# Altium integrated library Lattice CPLD ispMACH.IntLib: 663 symbols (part 30 of 48)
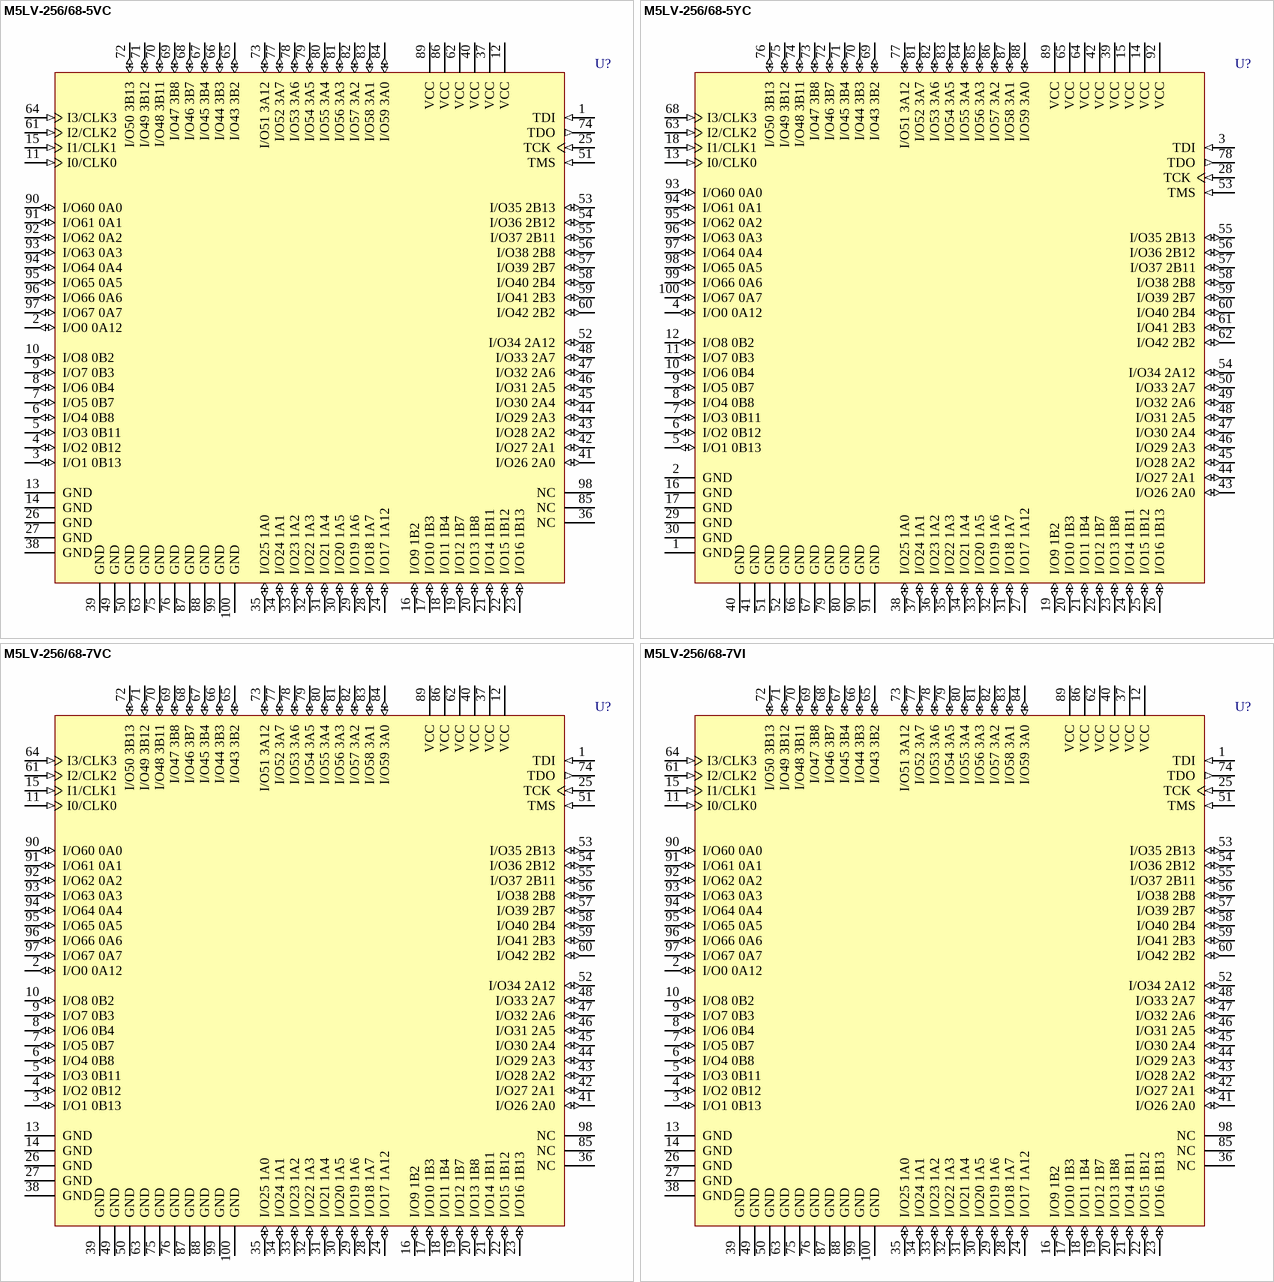
[diagram p335: symbols M5LV-256/68-5VC to M5LV-256/68-7VI]

## M5LV-256/68-7VC
designator U?
High-Density and High-I/O Complex PLD; Published: 23-Sep-2002; LatestRevisionDate: 13-Apr-2006; LatestRevisionNote: IPC-7351 Footprint Added.; DatasheetVersion: Sep-2000; PackageVersion: pkg_32, Aug-2005; PackageReference: TQFP100; Publisher: Altium Limited; PackageDescription: 100-Pin Thin Quad Flat Pack (TQFP100); Code_JEDEC: MS-026-BED; ComponentLink1Description: Manufacturer Link; ComponentLink1URL: http://www.latticesemi.com/products/mature/index.cfm; ComponentLink2Description: Datasheet; ComponentLink2URL: http://www.latticesemi.com/lit/docs/datasheets/cpld/mach5.pdf
footprint TQFP100_N (Thin QFP, 100-Leads, Body 14x14mm, Pitch 0.5mm, IPC Medium Density)
footprint TQFP100_L (Thin QFP, 100-Leads, Body 14x14mm, Pitch 0.5mm, IPC High Density)
footprint TQFP100_M (Thin QFP, 100-Leads, Body 14x14mm, Pitch 0.5mm, IPC Low Density)
3D model M5LV-TQFP100 (100-Pin Thin Quad Flat Pack (TQFP100))
pins: 1 TDI (in), 2 I/O0 0A12 (io), 3 I/O1 0B13 (io), 4 I/O2 0B12 (io), 5 I/O3 0B11 (io), 6 I/O4 0B8 (io), 7 I/O5 0B7 (io), 8 I/O6 0B4 (io), 9 I/O7 0B3 (io), 10 I/O8 0B2 (io), 11 I0/CLK0 (in), 12 VCC (power), 13 GND (power), 14 GND (power), 15 I1/CLK1 (in), 16 I/O9 1B2 (io), 17 I/O10 1B3 (io), 18 I/O11 1B4 (io), 19 I/O12 1B7 (io), 20 I/O13 1B8 (io), 21 I/O14 1B11 (io), 22 I/O15 1B12 (io), 23 I/O16 1B13 (io), 24 I/O17 1A12 (io), 25 TCK (in), 26 GND (power), 27 GND (power), 28 I/O18 1A7 (io), 29 I/O19 1A6 (io), 30 I/O20 1A5 (io), 31 I/O21 1A4 (io), 32 I/O22 1A3 (io), 33 I/O23 1A2 (io), 34 I/O24 1A1 (io), 35 I/O25 1A0 (io), 36 NC, 37 VCC (power), 38 GND (power), 39 GND (power), 40 VCC (power), 41 I/O26 2A0 (io), 42 I/O27 2A1 (io), 43 I/O28 2A2 (io), 44 I/O29 2A3 (io), 45 I/O30 2A4 (io), 46 I/O31 2A5 (io), 47 I/O32 2A6 (io), 48 I/O33 2A7 (io), 49 GND (power), 50 GND (power), 51 TMS (in), 52 I/O34 2A12 (io), 53 I/O35 2B13 (io), 54 I/O36 2B12 (io), 55 I/O37 2B11 (io), 56 I/O38 2B8 (io), 57 I/O39 2B7 (io), 58 I/O40 2B4 (io), 59 I/O41 2B3 (io), 60 I/O42 2B2 (io), 61 I2/CLK2 (in), 62 VCC (power), 63 GND (power), 64 I3/CLK3 (in), 65 I/O43 3B2 (io), 66 I/O44 3B3 (io), 67 I/O45 3B4 (io), 68 I/O46 3B7 (io), 69 I/O47 3B8 (io), 70 I/O48 3B11 (io), 71 I/O49 3B12 (io), 72 I/O50 3B13 (io), 73 I/O51 3A12 (io), 74 TDO (out), 75 GND (power), 76 GND (power), 77 I/O52 3A7 (io), 78 I/O53 3A6 (io), 79 I/O54 3A5 (io), 80 I/O55 3A4 (io), 81 I/O56 3A3 (io), 82 I/O57 3A2 (io), 83 I/O58 3A1 (io), 84 I/O59 3A0 (io), 85 NC, 86 VCC (power), 87 GND (power), 88 GND (power), 89 VCC (power), 90 I/O60 0A0 (io), 91 I/O61 0A1 (io), 92 I/O62 0A2 (io), 93 I/O63 0A3 (io), 94 I/O64 0A4 (io), 95 I/O65 0A5 (io), 96 I/O66 0A6 (io), 97 I/O67 0A7 (io), 98 NC, 99 GND (power), 100 GND (power)

## M5LV-256/68-7VI
designator U?
High-Density and High-I/O Complex PLD; Published: 23-Sep-2002; LatestRevisionDate: 13-Apr-2006; LatestRevisionNote: IPC-7351 Footprint Added.; DatasheetVersion: Sep-2000; PackageVersion: pkg_32, Aug-2005; PackageReference: TQFP100; Publisher: Altium Limited; PackageDescription: 100-Pin Thin Quad Flat Pack (TQFP100); Code_JEDEC: MS-026-BED; ComponentLink1Description: Manufacturer Link; ComponentLink1URL: http://www.latticesemi.com/products/mature/index.cfm; ComponentLink2Description: Datasheet; ComponentLink2URL: http://www.latticesemi.com/lit/docs/datasheets/cpld/mach5.pdf
footprint TQFP100_N (Thin QFP, 100-Leads, Body 14x14mm, Pitch 0.5mm, IPC Medium Density)
footprint TQFP100_L (Thin QFP, 100-Leads, Body 14x14mm, Pitch 0.5mm, IPC High Density)
footprint TQFP100_M (Thin QFP, 100-Leads, Body 14x14mm, Pitch 0.5mm, IPC Low Density)
3D model M5LV-TQFP100 (100-Pin Thin Quad Flat Pack (TQFP100))
pins: 1 TDI (in), 2 I/O0 0A12 (io), 3 I/O1 0B13 (io), 4 I/O2 0B12 (io), 5 I/O3 0B11 (io), 6 I/O4 0B8 (io), 7 I/O5 0B7 (io), 8 I/O6 0B4 (io), 9 I/O7 0B3 (io), 10 I/O8 0B2 (io), 11 I0/CLK0 (in), 12 VCC (power), 13 GND (power), 14 GND (power), 15 I1/CLK1 (in), 16 I/O9 1B2 (io), 17 I/O10 1B3 (io), 18 I/O11 1B4 (io), 19 I/O12 1B7 (io), 20 I/O13 1B8 (io), 21 I/O14 1B11 (io), 22 I/O15 1B12 (io), 23 I/O16 1B13 (io), 24 I/O17 1A12 (io), 25 TCK (in), 26 GND (power), 27 GND (power), 28 I/O18 1A7 (io), 29 I/O19 1A6 (io), 30 I/O20 1A5 (io), 31 I/O21 1A4 (io), 32 I/O22 1A3 (io), 33 I/O23 1A2 (io), 34 I/O24 1A1 (io), 35 I/O25 1A0 (io), 36 NC, 37 VCC (power), 38 GND (power), 39 GND (power), 40 VCC (power), 41 I/O26 2A0 (io), 42 I/O27 2A1 (io), 43 I/O28 2A2 (io), 44 I/O29 2A3 (io), 45 I/O30 2A4 (io), 46 I/O31 2A5 (io), 47 I/O32 2A6 (io), 48 I/O33 2A7 (io), 49 GND (power), 50 GND (power), 51 TMS (in), 52 I/O34 2A12 (io), 53 I/O35 2B13 (io), 54 I/O36 2B12 (io), 55 I/O37 2B11 (io), 56 I/O38 2B8 (io), 57 I/O39 2B7 (io), 58 I/O40 2B4 (io), 59 I/O41 2B3 (io), 60 I/O42 2B2 (io), 61 I2/CLK2 (in), 62 VCC (power), 63 GND (power), 64 I3/CLK3 (in), 65 I/O43 3B2 (io), 66 I/O44 3B3 (io), 67 I/O45 3B4 (io), 68 I/O46 3B7 (io), 69 I/O47 3B8 (io), 70 I/O48 3B11 (io), 71 I/O49 3B12 (io), 72 I/O50 3B13 (io), 73 I/O51 3A12 (io), 74 TDO (out), 75 GND (power), 76 GND (power), 77 I/O52 3A7 (io), 78 I/O53 3A6 (io), 79 I/O54 3A5 (io), 80 I/O55 3A4 (io), 81 I/O56 3A3 (io), 82 I/O57 3A2 (io), 83 I/O58 3A1 (io), 84 I/O59 3A0 (io), 85 NC, 86 VCC (power), 87 GND (power), 88 GND (power), 89 VCC (power), 90 I/O60 0A0 (io), 91 I/O61 0A1 (io), 92 I/O62 0A2 (io), 93 I/O63 0A3 (io), 94 I/O64 0A4 (io), 95 I/O65 0A5 (io), 96 I/O66 0A6 (io), 97 I/O67 0A7 (io), 98 NC, 99 GND (power), 100 GND (power)

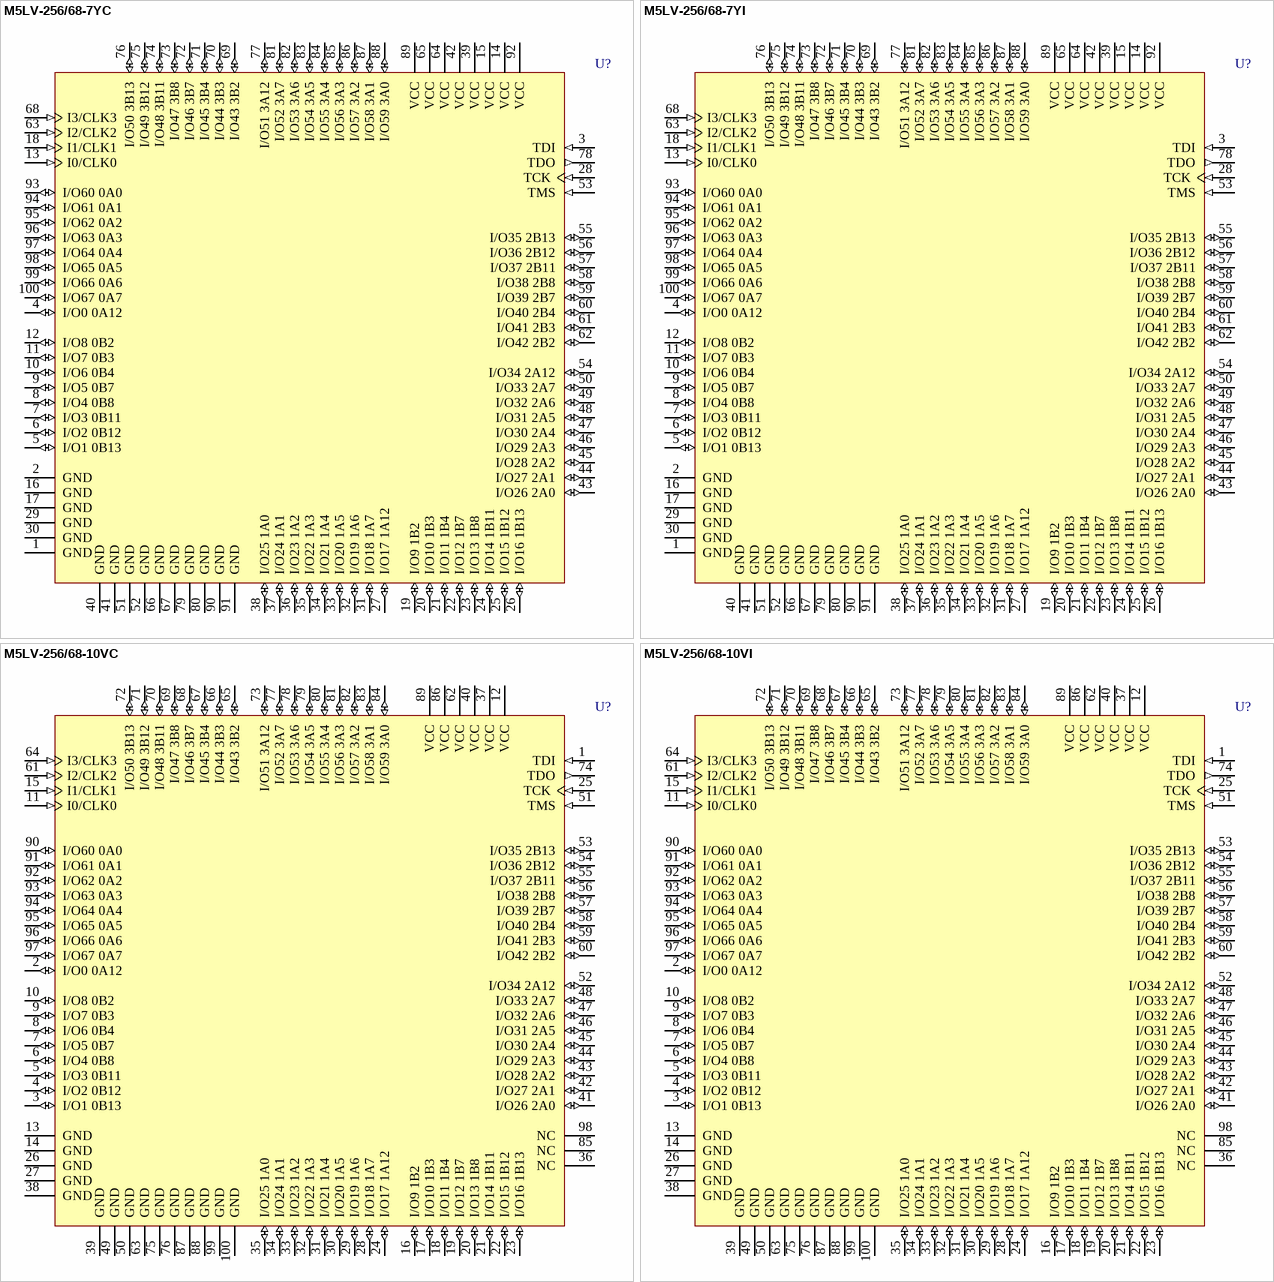
[diagram p174: symbols M5LV-256/68-7YC to M5LV-256/68-10VI]

## M5LV-256/68-7YC
designator U?
High-Density and High-I/O Complex PLD; Published: 23-Sep-2002; LatestRevisionDate: 13-Apr-2006; LatestRevisionNote: IPC-7351 Footprint Added.; DatasheetVersion: Sep-2000; PackageVersion: pkg_32, Aug-2005; PackageReference: PQFP100; Publisher: Altium Limited; PackageDescription: 100-Pin Quad Flat Pack Rectangular 0.65 mm Pitch; Code_IPC: QFP65P1720X2320-100; ComponentLink1Description: Manufacturer Link; ComponentLink1URL: http://www.latticesemi.com/products/mature/index.cfm; ComponentLink2Description: Datasheet; ComponentLink2URL: http://www.latticesemi.com/lit/docs/datasheets/cpld/mach5.pdf
footprint PQFP100_N (QFP, 100-Leads, Body 20x14mm, Pitch 0.65mm, IPC Medium Density)
footprint PQFP100_L (QFP, 100-Leads, Body 20x14mm, Pitch 0.65mm, IPC High Density)
footprint PQFP100_M (QFP, 100-Leads, Body 20x14mm, Pitch 0.65mm, IPC Low Density)
3D model PQFP-100 (100-Pin Quad Flat Pack Rectangular 0.65 mm Pitch)
pins: 1 GND (power), 2 GND (power), 3 TDI (in), 4 I/O0 0A12 (io), 5 I/O1 0B13 (io), 6 I/O2 0B12 (io), 7 I/O3 0B11 (io), 8 I/O4 0B8 (io), 9 I/O5 0B7 (io), 10 I/O6 0B4 (io), 11 I/O7 0B3 (io), 12 I/O8 0B2 (io), 13 I0/CLK0 (in), 14 VCC (power), 15 VCC (power), 16 GND (power), 17 GND (power), 18 I1/CLK1 (in), 19 I/O9 1B2 (io), 20 I/O10 1B3 (io), 21 I/O11 1B4 (io), 22 I/O12 1B7 (io), 23 I/O13 1B8 (io), 24 I/O14 1B11 (io), 25 I/O15 1B12 (io), 26 I/O16 1B13 (io), 27 I/O17 1A12 (io), 28 TCK (in), 29 GND (power), 30 GND (power), 31 I/O18 1A7 (io), 32 I/O19 1A6 (io), 33 I/O20 1A5 (io), 34 I/O21 1A4 (io), 35 I/O22 1A3 (io), 36 I/O23 1A2 (io), 37 I/O24 1A1 (io), 38 I/O25 1A0 (io), 39 VCC (power), 40 GND (power), 41 GND (power), 42 VCC (power), 43 I/O26 2A0 (io), 44 I/O27 2A1 (io), 45 I/O28 2A2 (io), 46 I/O29 2A3 (io), 47 I/O30 2A4 (io), 48 I/O31 2A5 (io), 49 I/O32 2A6 (io), 50 I/O33 2A7 (io), 51 GND (power), 52 GND (power), 53 TMS (in), 54 I/O34 2A12 (io), 55 I/O35 2B13 (io), 56 I/O36 2B12 (io), 57 I/O37 2B11 (io), 58 I/O38 2B8 (io), 59 I/O39 2B7 (io), 60 I/O40 2B4 (io), 61 I/O41 2B3 (io), 62 I/O42 2B2 (io), 63 I2/CLK2 (in), 64 VCC (power), 65 VCC (power), 66 GND (power), 67 GND (power), 68 I3/CLK3 (in), 69 I/O43 3B2 (io), 70 I/O44 3B3 (io), 71 I/O45 3B4 (io), 72 I/O46 3B7 (io), 73 I/O47 3B8 (io), 74 I/O48 3B11 (io), 75 I/O49 3B12 (io), 76 I/O50 3B13 (io), 77 I/O51 3A12 (io), 78 TDO (out), 79 GND (power), 80 GND (power), 81 I/O52 3A7 (io), 82 I/O53 3A6 (io), 83 I/O54 3A5 (io), 84 I/O55 3A4 (io), 85 I/O56 3A3 (io), 86 I/O57 3A2 (io), 87 I/O58 3A1 (io), 88 I/O59 3A0 (io), 89 VCC (power), 90 GND (power), 91 GND (power), 92 VCC (power), 93 I/O60 0A0 (io), 94 I/O61 0A1 (io), 95 I/O62 0A2 (io), 96 I/O63 0A3 (io), 97 I/O64 0A4 (io), 98 I/O65 0A5 (io), 99 I/O66 0A6 (io), 100 I/O67 0A7 (io)

## M5LV-256/68-7YI
designator U?
High-Density and High-I/O Complex PLD; Published: 23-Sep-2002; LatestRevisionDate: 13-Apr-2006; LatestRevisionNote: IPC-7351 Footprint Added.; DatasheetVersion: Sep-2000; PackageVersion: pkg_32, Aug-2005; PackageReference: PQFP100; Publisher: Altium Limited; PackageDescription: 100-Pin Quad Flat Pack Rectangular 0.65 mm Pitch; Code_IPC: QFP65P1720X2320-100; ComponentLink1Description: Manufacturer Link; ComponentLink1URL: http://www.latticesemi.com/products/mature/index.cfm; ComponentLink2Description: Datasheet; ComponentLink2URL: http://www.latticesemi.com/lit/docs/datasheets/cpld/mach5.pdf
footprint PQFP100_N (QFP, 100-Leads, Body 20x14mm, Pitch 0.65mm, IPC Medium Density)
footprint PQFP100_L (QFP, 100-Leads, Body 20x14mm, Pitch 0.65mm, IPC High Density)
footprint PQFP100_M (QFP, 100-Leads, Body 20x14mm, Pitch 0.65mm, IPC Low Density)
3D model PQFP-100 (100-Pin Quad Flat Pack Rectangular 0.65 mm Pitch)
pins: 1 GND (power), 2 GND (power), 3 TDI (in), 4 I/O0 0A12 (io), 5 I/O1 0B13 (io), 6 I/O2 0B12 (io), 7 I/O3 0B11 (io), 8 I/O4 0B8 (io), 9 I/O5 0B7 (io), 10 I/O6 0B4 (io), 11 I/O7 0B3 (io), 12 I/O8 0B2 (io), 13 I0/CLK0 (in), 14 VCC (power), 15 VCC (power), 16 GND (power), 17 GND (power), 18 I1/CLK1 (in), 19 I/O9 1B2 (io), 20 I/O10 1B3 (io), 21 I/O11 1B4 (io), 22 I/O12 1B7 (io), 23 I/O13 1B8 (io), 24 I/O14 1B11 (io), 25 I/O15 1B12 (io), 26 I/O16 1B13 (io), 27 I/O17 1A12 (io), 28 TCK (in), 29 GND (power), 30 GND (power), 31 I/O18 1A7 (io), 32 I/O19 1A6 (io), 33 I/O20 1A5 (io), 34 I/O21 1A4 (io), 35 I/O22 1A3 (io), 36 I/O23 1A2 (io), 37 I/O24 1A1 (io), 38 I/O25 1A0 (io), 39 VCC (power), 40 GND (power), 41 GND (power), 42 VCC (power), 43 I/O26 2A0 (io), 44 I/O27 2A1 (io), 45 I/O28 2A2 (io), 46 I/O29 2A3 (io), 47 I/O30 2A4 (io), 48 I/O31 2A5 (io), 49 I/O32 2A6 (io), 50 I/O33 2A7 (io), 51 GND (power), 52 GND (power), 53 TMS (in), 54 I/O34 2A12 (io), 55 I/O35 2B13 (io), 56 I/O36 2B12 (io), 57 I/O37 2B11 (io), 58 I/O38 2B8 (io), 59 I/O39 2B7 (io), 60 I/O40 2B4 (io), 61 I/O41 2B3 (io), 62 I/O42 2B2 (io), 63 I2/CLK2 (in), 64 VCC (power), 65 VCC (power), 66 GND (power), 67 GND (power), 68 I3/CLK3 (in), 69 I/O43 3B2 (io), 70 I/O44 3B3 (io), 71 I/O45 3B4 (io), 72 I/O46 3B7 (io), 73 I/O47 3B8 (io), 74 I/O48 3B11 (io), 75 I/O49 3B12 (io), 76 I/O50 3B13 (io), 77 I/O51 3A12 (io), 78 TDO (out), 79 GND (power), 80 GND (power), 81 I/O52 3A7 (io), 82 I/O53 3A6 (io), 83 I/O54 3A5 (io), 84 I/O55 3A4 (io), 85 I/O56 3A3 (io), 86 I/O57 3A2 (io), 87 I/O58 3A1 (io), 88 I/O59 3A0 (io), 89 VCC (power), 90 GND (power), 91 GND (power), 92 VCC (power), 93 I/O60 0A0 (io), 94 I/O61 0A1 (io), 95 I/O62 0A2 (io), 96 I/O63 0A3 (io), 97 I/O64 0A4 (io), 98 I/O65 0A5 (io), 99 I/O66 0A6 (io), 100 I/O67 0A7 (io)

## M5LV-256/68-10VC
designator U?
High-Density and High-I/O Complex PLD; Published: 23-Sep-2002; LatestRevisionDate: 13-Apr-2006; LatestRevisionNote: IPC-7351 Footprint Added.; DatasheetVersion: Sep-2000; PackageVersion: pkg_32, Aug-2005; PackageReference: TQFP100; Publisher: Altium Limited; PackageDescription: 100-Pin Thin Quad Flat Pack (TQFP100); Code_JEDEC: MS-026-BED; ComponentLink1Description: Manufacturer Link; ComponentLink1URL: http://www.latticesemi.com/products/mature/index.cfm; ComponentLink2Description: Datasheet; ComponentLink2URL: http://www.latticesemi.com/lit/docs/datasheets/cpld/mach5.pdf
footprint TQFP100_N (Thin QFP, 100-Leads, Body 14x14mm, Pitch 0.5mm, IPC Medium Density)
footprint TQFP100_L (Thin QFP, 100-Leads, Body 14x14mm, Pitch 0.5mm, IPC High Density)
footprint TQFP100_M (Thin QFP, 100-Leads, Body 14x14mm, Pitch 0.5mm, IPC Low Density)
3D model M5LV-TQFP100 (100-Pin Thin Quad Flat Pack (TQFP100))
pins: 1 TDI (in), 2 I/O0 0A12 (io), 3 I/O1 0B13 (io), 4 I/O2 0B12 (io), 5 I/O3 0B11 (io), 6 I/O4 0B8 (io), 7 I/O5 0B7 (io), 8 I/O6 0B4 (io), 9 I/O7 0B3 (io), 10 I/O8 0B2 (io), 11 I0/CLK0 (in), 12 VCC (power), 13 GND (power), 14 GND (power), 15 I1/CLK1 (in), 16 I/O9 1B2 (io), 17 I/O10 1B3 (io), 18 I/O11 1B4 (io), 19 I/O12 1B7 (io), 20 I/O13 1B8 (io), 21 I/O14 1B11 (io), 22 I/O15 1B12 (io), 23 I/O16 1B13 (io), 24 I/O17 1A12 (io), 25 TCK (in), 26 GND (power), 27 GND (power), 28 I/O18 1A7 (io), 29 I/O19 1A6 (io), 30 I/O20 1A5 (io), 31 I/O21 1A4 (io), 32 I/O22 1A3 (io), 33 I/O23 1A2 (io), 34 I/O24 1A1 (io), 35 I/O25 1A0 (io), 36 NC, 37 VCC (power), 38 GND (power), 39 GND (power), 40 VCC (power), 41 I/O26 2A0 (io), 42 I/O27 2A1 (io), 43 I/O28 2A2 (io), 44 I/O29 2A3 (io), 45 I/O30 2A4 (io), 46 I/O31 2A5 (io), 47 I/O32 2A6 (io), 48 I/O33 2A7 (io), 49 GND (power), 50 GND (power), 51 TMS (in), 52 I/O34 2A12 (io), 53 I/O35 2B13 (io), 54 I/O36 2B12 (io), 55 I/O37 2B11 (io), 56 I/O38 2B8 (io), 57 I/O39 2B7 (io), 58 I/O40 2B4 (io), 59 I/O41 2B3 (io), 60 I/O42 2B2 (io), 61 I2/CLK2 (in), 62 VCC (power), 63 GND (power), 64 I3/CLK3 (in), 65 I/O43 3B2 (io), 66 I/O44 3B3 (io), 67 I/O45 3B4 (io), 68 I/O46 3B7 (io), 69 I/O47 3B8 (io), 70 I/O48 3B11 (io), 71 I/O49 3B12 (io), 72 I/O50 3B13 (io), 73 I/O51 3A12 (io), 74 TDO (out), 75 GND (power), 76 GND (power), 77 I/O52 3A7 (io), 78 I/O53 3A6 (io), 79 I/O54 3A5 (io), 80 I/O55 3A4 (io), 81 I/O56 3A3 (io), 82 I/O57 3A2 (io), 83 I/O58 3A1 (io), 84 I/O59 3A0 (io), 85 NC, 86 VCC (power), 87 GND (power), 88 GND (power), 89 VCC (power), 90 I/O60 0A0 (io), 91 I/O61 0A1 (io), 92 I/O62 0A2 (io), 93 I/O63 0A3 (io), 94 I/O64 0A4 (io), 95 I/O65 0A5 (io), 96 I/O66 0A6 (io), 97 I/O67 0A7 (io), 98 NC, 99 GND (power), 100 GND (power)

## M5LV-256/68-10VI
designator U?
High-Density and High-I/O Complex PLD; Published: 23-Sep-2002; LatestRevisionDate: 13-Apr-2006; LatestRevisionNote: IPC-7351 Footprint Added.; DatasheetVersion: Sep-2000; PackageVersion: pkg_32, Aug-2005; PackageReference: TQFP100; Publisher: Altium Limited; PackageDescription: 100-Pin Thin Quad Flat Pack (TQFP100); Code_JEDEC: MS-026-BED; ComponentLink1Description: Manufacturer Link; ComponentLink1URL: http://www.latticesemi.com/products/mature/index.cfm; ComponentLink2Description: Datasheet; ComponentLink2URL: http://www.latticesemi.com/lit/docs/datasheets/cpld/mach5.pdf
footprint TQFP100_N (Thin QFP, 100-Leads, Body 14x14mm, Pitch 0.5mm, IPC Medium Density)
footprint TQFP100_L (Thin QFP, 100-Leads, Body 14x14mm, Pitch 0.5mm, IPC High Density)
footprint TQFP100_M (Thin QFP, 100-Leads, Body 14x14mm, Pitch 0.5mm, IPC Low Density)
3D model M5LV-TQFP100 (100-Pin Thin Quad Flat Pack (TQFP100))
pins: 1 TDI (in), 2 I/O0 0A12 (io), 3 I/O1 0B13 (io), 4 I/O2 0B12 (io), 5 I/O3 0B11 (io), 6 I/O4 0B8 (io), 7 I/O5 0B7 (io), 8 I/O6 0B4 (io), 9 I/O7 0B3 (io), 10 I/O8 0B2 (io), 11 I0/CLK0 (in), 12 VCC (power), 13 GND (power), 14 GND (power), 15 I1/CLK1 (in), 16 I/O9 1B2 (io), 17 I/O10 1B3 (io), 18 I/O11 1B4 (io), 19 I/O12 1B7 (io), 20 I/O13 1B8 (io), 21 I/O14 1B11 (io), 22 I/O15 1B12 (io), 23 I/O16 1B13 (io), 24 I/O17 1A12 (io), 25 TCK (in), 26 GND (power), 27 GND (power), 28 I/O18 1A7 (io), 29 I/O19 1A6 (io), 30 I/O20 1A5 (io), 31 I/O21 1A4 (io), 32 I/O22 1A3 (io), 33 I/O23 1A2 (io), 34 I/O24 1A1 (io), 35 I/O25 1A0 (io), 36 NC, 37 VCC (power), 38 GND (power), 39 GND (power), 40 VCC (power), 41 I/O26 2A0 (io), 42 I/O27 2A1 (io), 43 I/O28 2A2 (io), 44 I/O29 2A3 (io), 45 I/O30 2A4 (io), 46 I/O31 2A5 (io), 47 I/O32 2A6 (io), 48 I/O33 2A7 (io), 49 GND (power), 50 GND (power), 51 TMS (in), 52 I/O34 2A12 (io), 53 I/O35 2B13 (io), 54 I/O36 2B12 (io), 55 I/O37 2B11 (io), 56 I/O38 2B8 (io), 57 I/O39 2B7 (io), 58 I/O40 2B4 (io), 59 I/O41 2B3 (io), 60 I/O42 2B2 (io), 61 I2/CLK2 (in), 62 VCC (power), 63 GND (power), 64 I3/CLK3 (in), 65 I/O43 3B2 (io), 66 I/O44 3B3 (io), 67 I/O45 3B4 (io), 68 I/O46 3B7 (io), 69 I/O47 3B8 (io), 70 I/O48 3B11 (io), 71 I/O49 3B12 (io), 72 I/O50 3B13 (io), 73 I/O51 3A12 (io), 74 TDO (out), 75 GND (power), 76 GND (power), 77 I/O52 3A7 (io), 78 I/O53 3A6 (io), 79 I/O54 3A5 (io), 80 I/O55 3A4 (io), 81 I/O56 3A3 (io), 82 I/O57 3A2 (io), 83 I/O58 3A1 (io), 84 I/O59 3A0 (io), 85 NC, 86 VCC (power), 87 GND (power), 88 GND (power), 89 VCC (power), 90 I/O60 0A0 (io), 91 I/O61 0A1 (io), 92 I/O62 0A2 (io), 93 I/O63 0A3 (io), 94 I/O64 0A4 (io), 95 I/O65 0A5 (io), 96 I/O66 0A6 (io), 97 I/O67 0A7 (io), 98 NC, 99 GND (power), 100 GND (power)

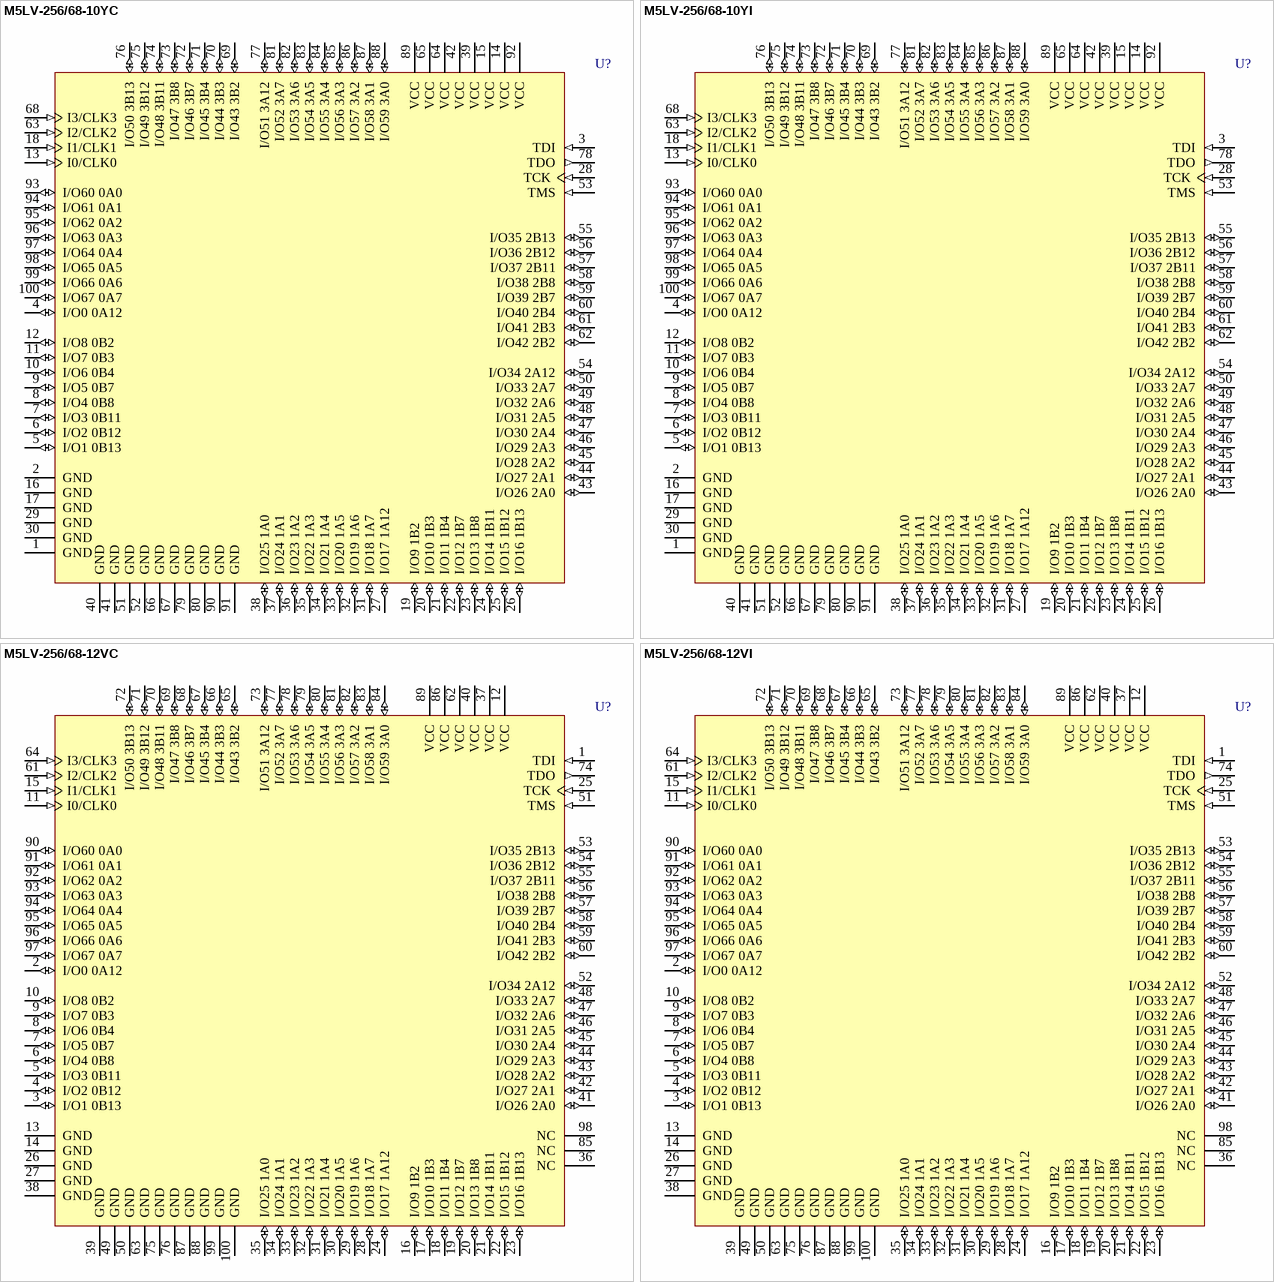
[diagram p175: symbols M5LV-256/68-10YC to M5LV-256/68-12VI]

## M5LV-256/68-10YC
designator U?
High-Density and High-I/O Complex PLD; Published: 23-Sep-2002; LatestRevisionDate: 13-Apr-2006; LatestRevisionNote: IPC-7351 Footprint Added.; DatasheetVersion: Sep-2000; PackageVersion: pkg_32, Aug-2005; PackageReference: PQFP100; Publisher: Altium Limited; PackageDescription: 100-Pin Quad Flat Pack Rectangular 0.65 mm Pitch; Code_IPC: QFP65P1720X2320-100; ComponentLink1Description: Manufacturer Link; ComponentLink1URL: http://www.latticesemi.com/products/mature/index.cfm; ComponentLink2Description: Datasheet; ComponentLink2URL: http://www.latticesemi.com/lit/docs/datasheets/cpld/mach5.pdf
footprint PQFP100_N (QFP, 100-Leads, Body 20x14mm, Pitch 0.65mm, IPC Medium Density)
footprint PQFP100_L (QFP, 100-Leads, Body 20x14mm, Pitch 0.65mm, IPC High Density)
footprint PQFP100_M (QFP, 100-Leads, Body 20x14mm, Pitch 0.65mm, IPC Low Density)
3D model PQFP-100 (100-Pin Quad Flat Pack Rectangular 0.65 mm Pitch)
pins: 1 GND (power), 2 GND (power), 3 TDI (in), 4 I/O0 0A12 (io), 5 I/O1 0B13 (io), 6 I/O2 0B12 (io), 7 I/O3 0B11 (io), 8 I/O4 0B8 (io), 9 I/O5 0B7 (io), 10 I/O6 0B4 (io), 11 I/O7 0B3 (io), 12 I/O8 0B2 (io), 13 I0/CLK0 (in), 14 VCC (power), 15 VCC (power), 16 GND (power), 17 GND (power), 18 I1/CLK1 (in), 19 I/O9 1B2 (io), 20 I/O10 1B3 (io), 21 I/O11 1B4 (io), 22 I/O12 1B7 (io), 23 I/O13 1B8 (io), 24 I/O14 1B11 (io), 25 I/O15 1B12 (io), 26 I/O16 1B13 (io), 27 I/O17 1A12 (io), 28 TCK (in), 29 GND (power), 30 GND (power), 31 I/O18 1A7 (io), 32 I/O19 1A6 (io), 33 I/O20 1A5 (io), 34 I/O21 1A4 (io), 35 I/O22 1A3 (io), 36 I/O23 1A2 (io), 37 I/O24 1A1 (io), 38 I/O25 1A0 (io), 39 VCC (power), 40 GND (power), 41 GND (power), 42 VCC (power), 43 I/O26 2A0 (io), 44 I/O27 2A1 (io), 45 I/O28 2A2 (io), 46 I/O29 2A3 (io), 47 I/O30 2A4 (io), 48 I/O31 2A5 (io), 49 I/O32 2A6 (io), 50 I/O33 2A7 (io), 51 GND (power), 52 GND (power), 53 TMS (in), 54 I/O34 2A12 (io), 55 I/O35 2B13 (io), 56 I/O36 2B12 (io), 57 I/O37 2B11 (io), 58 I/O38 2B8 (io), 59 I/O39 2B7 (io), 60 I/O40 2B4 (io), 61 I/O41 2B3 (io), 62 I/O42 2B2 (io), 63 I2/CLK2 (in), 64 VCC (power), 65 VCC (power), 66 GND (power), 67 GND (power), 68 I3/CLK3 (in), 69 I/O43 3B2 (io), 70 I/O44 3B3 (io), 71 I/O45 3B4 (io), 72 I/O46 3B7 (io), 73 I/O47 3B8 (io), 74 I/O48 3B11 (io), 75 I/O49 3B12 (io), 76 I/O50 3B13 (io), 77 I/O51 3A12 (io), 78 TDO (out), 79 GND (power), 80 GND (power), 81 I/O52 3A7 (io), 82 I/O53 3A6 (io), 83 I/O54 3A5 (io), 84 I/O55 3A4 (io), 85 I/O56 3A3 (io), 86 I/O57 3A2 (io), 87 I/O58 3A1 (io), 88 I/O59 3A0 (io), 89 VCC (power), 90 GND (power), 91 GND (power), 92 VCC (power), 93 I/O60 0A0 (io), 94 I/O61 0A1 (io), 95 I/O62 0A2 (io), 96 I/O63 0A3 (io), 97 I/O64 0A4 (io), 98 I/O65 0A5 (io), 99 I/O66 0A6 (io), 100 I/O67 0A7 (io)

## M5LV-256/68-10YI
designator U?
High-Density and High-I/O Complex PLD; Published: 23-Sep-2002; LatestRevisionDate: 13-Apr-2006; LatestRevisionNote: IPC-7351 Footprint Added.; DatasheetVersion: Sep-2000; PackageVersion: pkg_32, Aug-2005; PackageReference: PQFP100; Publisher: Altium Limited; PackageDescription: 100-Pin Quad Flat Pack Rectangular 0.65 mm Pitch; Code_IPC: QFP65P1720X2320-100; ComponentLink1Description: Manufacturer Link; ComponentLink1URL: http://www.latticesemi.com/products/mature/index.cfm; ComponentLink2Description: Datasheet; ComponentLink2URL: http://www.latticesemi.com/lit/docs/datasheets/cpld/mach5.pdf
footprint PQFP100_N (QFP, 100-Leads, Body 20x14mm, Pitch 0.65mm, IPC Medium Density)
footprint PQFP100_L (QFP, 100-Leads, Body 20x14mm, Pitch 0.65mm, IPC High Density)
footprint PQFP100_M (QFP, 100-Leads, Body 20x14mm, Pitch 0.65mm, IPC Low Density)
3D model PQFP-100 (100-Pin Quad Flat Pack Rectangular 0.65 mm Pitch)
pins: 1 GND (power), 2 GND (power), 3 TDI (in), 4 I/O0 0A12 (io), 5 I/O1 0B13 (io), 6 I/O2 0B12 (io), 7 I/O3 0B11 (io), 8 I/O4 0B8 (io), 9 I/O5 0B7 (io), 10 I/O6 0B4 (io), 11 I/O7 0B3 (io), 12 I/O8 0B2 (io), 13 I0/CLK0 (in), 14 VCC (power), 15 VCC (power), 16 GND (power), 17 GND (power), 18 I1/CLK1 (in), 19 I/O9 1B2 (io), 20 I/O10 1B3 (io), 21 I/O11 1B4 (io), 22 I/O12 1B7 (io), 23 I/O13 1B8 (io), 24 I/O14 1B11 (io), 25 I/O15 1B12 (io), 26 I/O16 1B13 (io), 27 I/O17 1A12 (io), 28 TCK (in), 29 GND (power), 30 GND (power), 31 I/O18 1A7 (io), 32 I/O19 1A6 (io), 33 I/O20 1A5 (io), 34 I/O21 1A4 (io), 35 I/O22 1A3 (io), 36 I/O23 1A2 (io), 37 I/O24 1A1 (io), 38 I/O25 1A0 (io), 39 VCC (power), 40 GND (power), 41 GND (power), 42 VCC (power), 43 I/O26 2A0 (io), 44 I/O27 2A1 (io), 45 I/O28 2A2 (io), 46 I/O29 2A3 (io), 47 I/O30 2A4 (io), 48 I/O31 2A5 (io), 49 I/O32 2A6 (io), 50 I/O33 2A7 (io), 51 GND (power), 52 GND (power), 53 TMS (in), 54 I/O34 2A12 (io), 55 I/O35 2B13 (io), 56 I/O36 2B12 (io), 57 I/O37 2B11 (io), 58 I/O38 2B8 (io), 59 I/O39 2B7 (io), 60 I/O40 2B4 (io), 61 I/O41 2B3 (io), 62 I/O42 2B2 (io), 63 I2/CLK2 (in), 64 VCC (power), 65 VCC (power), 66 GND (power), 67 GND (power), 68 I3/CLK3 (in), 69 I/O43 3B2 (io), 70 I/O44 3B3 (io), 71 I/O45 3B4 (io), 72 I/O46 3B7 (io), 73 I/O47 3B8 (io), 74 I/O48 3B11 (io), 75 I/O49 3B12 (io), 76 I/O50 3B13 (io), 77 I/O51 3A12 (io), 78 TDO (out), 79 GND (power), 80 GND (power), 81 I/O52 3A7 (io), 82 I/O53 3A6 (io), 83 I/O54 3A5 (io), 84 I/O55 3A4 (io), 85 I/O56 3A3 (io), 86 I/O57 3A2 (io), 87 I/O58 3A1 (io), 88 I/O59 3A0 (io), 89 VCC (power), 90 GND (power), 91 GND (power), 92 VCC (power), 93 I/O60 0A0 (io), 94 I/O61 0A1 (io), 95 I/O62 0A2 (io), 96 I/O63 0A3 (io), 97 I/O64 0A4 (io), 98 I/O65 0A5 (io), 99 I/O66 0A6 (io), 100 I/O67 0A7 (io)

## M5LV-256/68-12VC
designator U?
High-Density and High-I/O Complex PLD; Published: 23-Sep-2002; LatestRevisionDate: 13-Apr-2006; LatestRevisionNote: IPC-7351 Footprint Added.; DatasheetVersion: Sep-2000; PackageVersion: pkg_32, Aug-2005; PackageReference: TQFP100; Publisher: Altium Limited; PackageDescription: 100-Pin Thin Quad Flat Pack (TQFP100); Code_JEDEC: MS-026-BED; ComponentLink1Description: Manufacturer Link; ComponentLink1URL: http://www.latticesemi.com/products/mature/index.cfm; ComponentLink2Description: Datasheet; ComponentLink2URL: http://www.latticesemi.com/lit/docs/datasheets/cpld/mach5.pdf
footprint TQFP100_N (Thin QFP, 100-Leads, Body 14x14mm, Pitch 0.5mm, IPC Medium Density)
footprint TQFP100_L (Thin QFP, 100-Leads, Body 14x14mm, Pitch 0.5mm, IPC High Density)
footprint TQFP100_M (Thin QFP, 100-Leads, Body 14x14mm, Pitch 0.5mm, IPC Low Density)
3D model M5LV-TQFP100 (100-Pin Thin Quad Flat Pack (TQFP100))
pins: 1 TDI (in), 2 I/O0 0A12 (io), 3 I/O1 0B13 (io), 4 I/O2 0B12 (io), 5 I/O3 0B11 (io), 6 I/O4 0B8 (io), 7 I/O5 0B7 (io), 8 I/O6 0B4 (io), 9 I/O7 0B3 (io), 10 I/O8 0B2 (io), 11 I0/CLK0 (in), 12 VCC (power), 13 GND (power), 14 GND (power), 15 I1/CLK1 (in), 16 I/O9 1B2 (io), 17 I/O10 1B3 (io), 18 I/O11 1B4 (io), 19 I/O12 1B7 (io), 20 I/O13 1B8 (io), 21 I/O14 1B11 (io), 22 I/O15 1B12 (io), 23 I/O16 1B13 (io), 24 I/O17 1A12 (io), 25 TCK (in), 26 GND (power), 27 GND (power), 28 I/O18 1A7 (io), 29 I/O19 1A6 (io), 30 I/O20 1A5 (io), 31 I/O21 1A4 (io), 32 I/O22 1A3 (io), 33 I/O23 1A2 (io), 34 I/O24 1A1 (io), 35 I/O25 1A0 (io), 36 NC, 37 VCC (power), 38 GND (power), 39 GND (power), 40 VCC (power), 41 I/O26 2A0 (io), 42 I/O27 2A1 (io), 43 I/O28 2A2 (io), 44 I/O29 2A3 (io), 45 I/O30 2A4 (io), 46 I/O31 2A5 (io), 47 I/O32 2A6 (io), 48 I/O33 2A7 (io), 49 GND (power), 50 GND (power), 51 TMS (in), 52 I/O34 2A12 (io), 53 I/O35 2B13 (io), 54 I/O36 2B12 (io), 55 I/O37 2B11 (io), 56 I/O38 2B8 (io), 57 I/O39 2B7 (io), 58 I/O40 2B4 (io), 59 I/O41 2B3 (io), 60 I/O42 2B2 (io), 61 I2/CLK2 (in), 62 VCC (power), 63 GND (power), 64 I3/CLK3 (in), 65 I/O43 3B2 (io), 66 I/O44 3B3 (io), 67 I/O45 3B4 (io), 68 I/O46 3B7 (io), 69 I/O47 3B8 (io), 70 I/O48 3B11 (io), 71 I/O49 3B12 (io), 72 I/O50 3B13 (io), 73 I/O51 3A12 (io), 74 TDO (out), 75 GND (power), 76 GND (power), 77 I/O52 3A7 (io), 78 I/O53 3A6 (io), 79 I/O54 3A5 (io), 80 I/O55 3A4 (io), 81 I/O56 3A3 (io), 82 I/O57 3A2 (io), 83 I/O58 3A1 (io), 84 I/O59 3A0 (io), 85 NC, 86 VCC (power), 87 GND (power), 88 GND (power), 89 VCC (power), 90 I/O60 0A0 (io), 91 I/O61 0A1 (io), 92 I/O62 0A2 (io), 93 I/O63 0A3 (io), 94 I/O64 0A4 (io), 95 I/O65 0A5 (io), 96 I/O66 0A6 (io), 97 I/O67 0A7 (io), 98 NC, 99 GND (power), 100 GND (power)

## M5LV-256/68-12VI
designator U?
High-Density and High-I/O Complex PLD; Published: 23-Sep-2002; LatestRevisionDate: 13-Apr-2006; LatestRevisionNote: IPC-7351 Footprint Added.; DatasheetVersion: Sep-2000; PackageVersion: pkg_32, Aug-2005; PackageReference: TQFP100; Publisher: Altium Limited; PackageDescription: 100-Pin Thin Quad Flat Pack (TQFP100); Code_JEDEC: MS-026-BED; ComponentLink1Description: Manufacturer Link; ComponentLink1URL: http://www.latticesemi.com/products/mature/index.cfm; ComponentLink2Description: Datasheet; ComponentLink2URL: http://www.latticesemi.com/lit/docs/datasheets/cpld/mach5.pdf
footprint TQFP100_N (Thin QFP, 100-Leads, Body 14x14mm, Pitch 0.5mm, IPC Medium Density)
footprint TQFP100_L (Thin QFP, 100-Leads, Body 14x14mm, Pitch 0.5mm, IPC High Density)
footprint TQFP100_M (Thin QFP, 100-Leads, Body 14x14mm, Pitch 0.5mm, IPC Low Density)
3D model M5LV-TQFP100 (100-Pin Thin Quad Flat Pack (TQFP100))
pins: 1 TDI (in), 2 I/O0 0A12 (io), 3 I/O1 0B13 (io), 4 I/O2 0B12 (io), 5 I/O3 0B11 (io), 6 I/O4 0B8 (io), 7 I/O5 0B7 (io), 8 I/O6 0B4 (io), 9 I/O7 0B3 (io), 10 I/O8 0B2 (io), 11 I0/CLK0 (in), 12 VCC (power), 13 GND (power), 14 GND (power), 15 I1/CLK1 (in), 16 I/O9 1B2 (io), 17 I/O10 1B3 (io), 18 I/O11 1B4 (io), 19 I/O12 1B7 (io), 20 I/O13 1B8 (io), 21 I/O14 1B11 (io), 22 I/O15 1B12 (io), 23 I/O16 1B13 (io), 24 I/O17 1A12 (io), 25 TCK (in), 26 GND (power), 27 GND (power), 28 I/O18 1A7 (io), 29 I/O19 1A6 (io), 30 I/O20 1A5 (io), 31 I/O21 1A4 (io), 32 I/O22 1A3 (io), 33 I/O23 1A2 (io), 34 I/O24 1A1 (io), 35 I/O25 1A0 (io), 36 NC, 37 VCC (power), 38 GND (power), 39 GND (power), 40 VCC (power), 41 I/O26 2A0 (io), 42 I/O27 2A1 (io), 43 I/O28 2A2 (io), 44 I/O29 2A3 (io), 45 I/O30 2A4 (io), 46 I/O31 2A5 (io), 47 I/O32 2A6 (io), 48 I/O33 2A7 (io), 49 GND (power), 50 GND (power), 51 TMS (in), 52 I/O34 2A12 (io), 53 I/O35 2B13 (io), 54 I/O36 2B12 (io), 55 I/O37 2B11 (io), 56 I/O38 2B8 (io), 57 I/O39 2B7 (io), 58 I/O40 2B4 (io), 59 I/O41 2B3 (io), 60 I/O42 2B2 (io), 61 I2/CLK2 (in), 62 VCC (power), 63 GND (power), 64 I3/CLK3 (in), 65 I/O43 3B2 (io), 66 I/O44 3B3 (io), 67 I/O45 3B4 (io), 68 I/O46 3B7 (io), 69 I/O47 3B8 (io), 70 I/O48 3B11 (io), 71 I/O49 3B12 (io), 72 I/O50 3B13 (io), 73 I/O51 3A12 (io), 74 TDO (out), 75 GND (power), 76 GND (power), 77 I/O52 3A7 (io), 78 I/O53 3A6 (io), 79 I/O54 3A5 (io), 80 I/O55 3A4 (io), 81 I/O56 3A3 (io), 82 I/O57 3A2 (io), 83 I/O58 3A1 (io), 84 I/O59 3A0 (io), 85 NC, 86 VCC (power), 87 GND (power), 88 GND (power), 89 VCC (power), 90 I/O60 0A0 (io), 91 I/O61 0A1 (io), 92 I/O62 0A2 (io), 93 I/O63 0A3 (io), 94 I/O64 0A4 (io), 95 I/O65 0A5 (io), 96 I/O66 0A6 (io), 97 I/O67 0A7 (io), 98 NC, 99 GND (power), 100 GND (power)

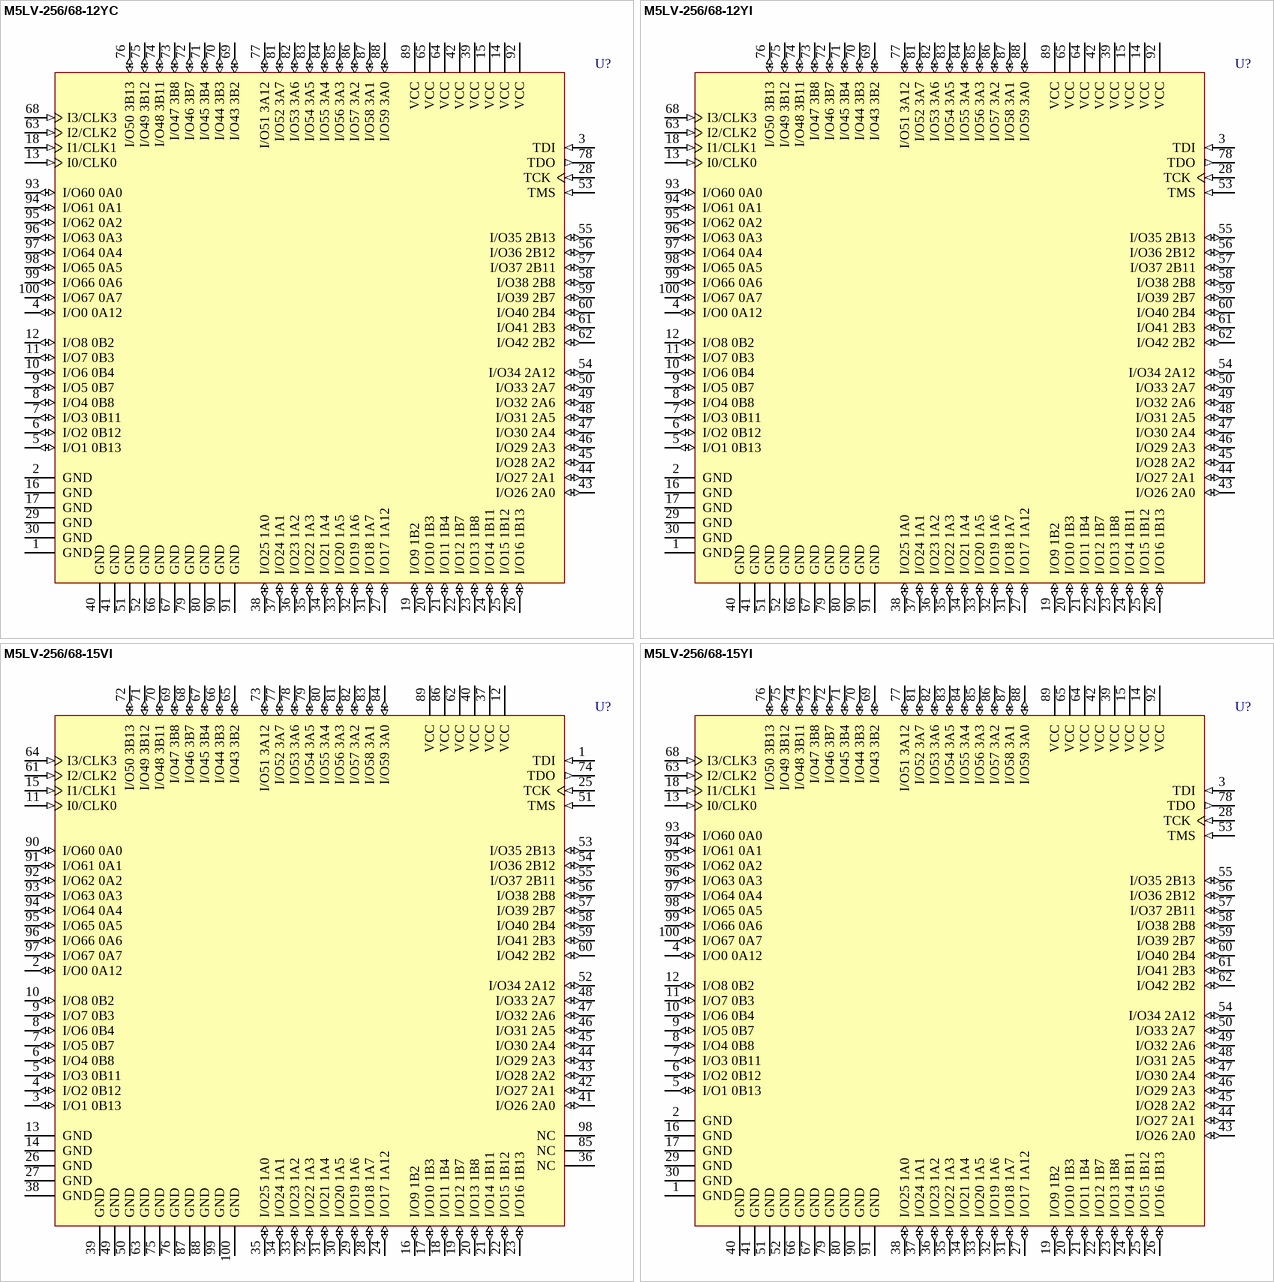
[diagram p176: symbols M5LV-256/68-12YC to M5LV-256/68-15YI]

## M5LV-256/68-12YC
designator U?
High-Density and High-I/O Complex PLD; Published: 23-Sep-2002; LatestRevisionDate: 13-Apr-2006; LatestRevisionNote: IPC-7351 Footprint Added.; DatasheetVersion: Sep-2000; PackageVersion: pkg_32, Aug-2005; PackageReference: PQFP100; Publisher: Altium Limited; PackageDescription: 100-Pin Quad Flat Pack Rectangular 0.65 mm Pitch; Code_IPC: QFP65P1720X2320-100; ComponentLink1Description: Manufacturer Link; ComponentLink1URL: http://www.latticesemi.com/products/mature/index.cfm; ComponentLink2Description: Datasheet; ComponentLink2URL: http://www.latticesemi.com/lit/docs/datasheets/cpld/mach5.pdf
footprint PQFP100_N (QFP, 100-Leads, Body 20x14mm, Pitch 0.65mm, IPC Medium Density)
footprint PQFP100_L (QFP, 100-Leads, Body 20x14mm, Pitch 0.65mm, IPC High Density)
footprint PQFP100_M (QFP, 100-Leads, Body 20x14mm, Pitch 0.65mm, IPC Low Density)
3D model PQFP-100 (100-Pin Quad Flat Pack Rectangular 0.65 mm Pitch)
pins: 1 GND (power), 2 GND (power), 3 TDI (in), 4 I/O0 0A12 (io), 5 I/O1 0B13 (io), 6 I/O2 0B12 (io), 7 I/O3 0B11 (io), 8 I/O4 0B8 (io), 9 I/O5 0B7 (io), 10 I/O6 0B4 (io), 11 I/O7 0B3 (io), 12 I/O8 0B2 (io), 13 I0/CLK0 (in), 14 VCC (power), 15 VCC (power), 16 GND (power), 17 GND (power), 18 I1/CLK1 (in), 19 I/O9 1B2 (io), 20 I/O10 1B3 (io), 21 I/O11 1B4 (io), 22 I/O12 1B7 (io), 23 I/O13 1B8 (io), 24 I/O14 1B11 (io), 25 I/O15 1B12 (io), 26 I/O16 1B13 (io), 27 I/O17 1A12 (io), 28 TCK (in), 29 GND (power), 30 GND (power), 31 I/O18 1A7 (io), 32 I/O19 1A6 (io), 33 I/O20 1A5 (io), 34 I/O21 1A4 (io), 35 I/O22 1A3 (io), 36 I/O23 1A2 (io), 37 I/O24 1A1 (io), 38 I/O25 1A0 (io), 39 VCC (power), 40 GND (power), 41 GND (power), 42 VCC (power), 43 I/O26 2A0 (io), 44 I/O27 2A1 (io), 45 I/O28 2A2 (io), 46 I/O29 2A3 (io), 47 I/O30 2A4 (io), 48 I/O31 2A5 (io), 49 I/O32 2A6 (io), 50 I/O33 2A7 (io), 51 GND (power), 52 GND (power), 53 TMS (in), 54 I/O34 2A12 (io), 55 I/O35 2B13 (io), 56 I/O36 2B12 (io), 57 I/O37 2B11 (io), 58 I/O38 2B8 (io), 59 I/O39 2B7 (io), 60 I/O40 2B4 (io), 61 I/O41 2B3 (io), 62 I/O42 2B2 (io), 63 I2/CLK2 (in), 64 VCC (power), 65 VCC (power), 66 GND (power), 67 GND (power), 68 I3/CLK3 (in), 69 I/O43 3B2 (io), 70 I/O44 3B3 (io), 71 I/O45 3B4 (io), 72 I/O46 3B7 (io), 73 I/O47 3B8 (io), 74 I/O48 3B11 (io), 75 I/O49 3B12 (io), 76 I/O50 3B13 (io), 77 I/O51 3A12 (io), 78 TDO (out), 79 GND (power), 80 GND (power), 81 I/O52 3A7 (io), 82 I/O53 3A6 (io), 83 I/O54 3A5 (io), 84 I/O55 3A4 (io), 85 I/O56 3A3 (io), 86 I/O57 3A2 (io), 87 I/O58 3A1 (io), 88 I/O59 3A0 (io), 89 VCC (power), 90 GND (power), 91 GND (power), 92 VCC (power), 93 I/O60 0A0 (io), 94 I/O61 0A1 (io), 95 I/O62 0A2 (io), 96 I/O63 0A3 (io), 97 I/O64 0A4 (io), 98 I/O65 0A5 (io), 99 I/O66 0A6 (io), 100 I/O67 0A7 (io)

## M5LV-256/68-12YI
designator U?
High-Density and High-I/O Complex PLD; Published: 23-Sep-2002; LatestRevisionDate: 13-Apr-2006; LatestRevisionNote: IPC-7351 Footprint Added.; DatasheetVersion: Sep-2000; PackageVersion: pkg_32, Aug-2005; PackageReference: PQFP100; Publisher: Altium Limited; PackageDescription: 100-Pin Quad Flat Pack Rectangular 0.65 mm Pitch; Code_IPC: QFP65P1720X2320-100; ComponentLink1Description: Manufacturer Link; ComponentLink1URL: http://www.latticesemi.com/products/mature/index.cfm; ComponentLink2Description: Datasheet; ComponentLink2URL: http://www.latticesemi.com/lit/docs/datasheets/cpld/mach5.pdf
footprint PQFP100_N (QFP, 100-Leads, Body 20x14mm, Pitch 0.65mm, IPC Medium Density)
footprint PQFP100_L (QFP, 100-Leads, Body 20x14mm, Pitch 0.65mm, IPC High Density)
footprint PQFP100_M (QFP, 100-Leads, Body 20x14mm, Pitch 0.65mm, IPC Low Density)
3D model PQFP-100 (100-Pin Quad Flat Pack Rectangular 0.65 mm Pitch)
pins: 1 GND (power), 2 GND (power), 3 TDI (in), 4 I/O0 0A12 (io), 5 I/O1 0B13 (io), 6 I/O2 0B12 (io), 7 I/O3 0B11 (io), 8 I/O4 0B8 (io), 9 I/O5 0B7 (io), 10 I/O6 0B4 (io), 11 I/O7 0B3 (io), 12 I/O8 0B2 (io), 13 I0/CLK0 (in), 14 VCC (power), 15 VCC (power), 16 GND (power), 17 GND (power), 18 I1/CLK1 (in), 19 I/O9 1B2 (io), 20 I/O10 1B3 (io), 21 I/O11 1B4 (io), 22 I/O12 1B7 (io), 23 I/O13 1B8 (io), 24 I/O14 1B11 (io), 25 I/O15 1B12 (io), 26 I/O16 1B13 (io), 27 I/O17 1A12 (io), 28 TCK (in), 29 GND (power), 30 GND (power), 31 I/O18 1A7 (io), 32 I/O19 1A6 (io), 33 I/O20 1A5 (io), 34 I/O21 1A4 (io), 35 I/O22 1A3 (io), 36 I/O23 1A2 (io), 37 I/O24 1A1 (io), 38 I/O25 1A0 (io), 39 VCC (power), 40 GND (power), 41 GND (power), 42 VCC (power), 43 I/O26 2A0 (io), 44 I/O27 2A1 (io), 45 I/O28 2A2 (io), 46 I/O29 2A3 (io), 47 I/O30 2A4 (io), 48 I/O31 2A5 (io), 49 I/O32 2A6 (io), 50 I/O33 2A7 (io), 51 GND (power), 52 GND (power), 53 TMS (in), 54 I/O34 2A12 (io), 55 I/O35 2B13 (io), 56 I/O36 2B12 (io), 57 I/O37 2B11 (io), 58 I/O38 2B8 (io), 59 I/O39 2B7 (io), 60 I/O40 2B4 (io), 61 I/O41 2B3 (io), 62 I/O42 2B2 (io), 63 I2/CLK2 (in), 64 VCC (power), 65 VCC (power), 66 GND (power), 67 GND (power), 68 I3/CLK3 (in), 69 I/O43 3B2 (io), 70 I/O44 3B3 (io), 71 I/O45 3B4 (io), 72 I/O46 3B7 (io), 73 I/O47 3B8 (io), 74 I/O48 3B11 (io), 75 I/O49 3B12 (io), 76 I/O50 3B13 (io), 77 I/O51 3A12 (io), 78 TDO (out), 79 GND (power), 80 GND (power), 81 I/O52 3A7 (io), 82 I/O53 3A6 (io), 83 I/O54 3A5 (io), 84 I/O55 3A4 (io), 85 I/O56 3A3 (io), 86 I/O57 3A2 (io), 87 I/O58 3A1 (io), 88 I/O59 3A0 (io), 89 VCC (power), 90 GND (power), 91 GND (power), 92 VCC (power), 93 I/O60 0A0 (io), 94 I/O61 0A1 (io), 95 I/O62 0A2 (io), 96 I/O63 0A3 (io), 97 I/O64 0A4 (io), 98 I/O65 0A5 (io), 99 I/O66 0A6 (io), 100 I/O67 0A7 (io)

## M5LV-256/68-15VI
designator U?
High-Density and High-I/O Complex PLD; Published: 23-Sep-2002; LatestRevisionDate: 13-Apr-2006; LatestRevisionNote: IPC-7351 Footprint Added.; DatasheetVersion: Sep-2000; PackageVersion: pkg_32, Aug-2005; PackageReference: TQFP100; Publisher: Altium Limited; PackageDescription: 100-Pin Thin Quad Flat Pack (TQFP100); Code_JEDEC: MS-026-BED; ComponentLink1Description: Manufacturer Link; ComponentLink1URL: http://www.latticesemi.com/products/mature/index.cfm; ComponentLink2Description: Datasheet; ComponentLink2URL: http://www.latticesemi.com/lit/docs/datasheets/cpld/mach5.pdf
footprint TQFP100_N (Thin QFP, 100-Leads, Body 14x14mm, Pitch 0.5mm, IPC Medium Density)
footprint TQFP100_L (Thin QFP, 100-Leads, Body 14x14mm, Pitch 0.5mm, IPC High Density)
footprint TQFP100_M (Thin QFP, 100-Leads, Body 14x14mm, Pitch 0.5mm, IPC Low Density)
3D model M5LV-TQFP100 (100-Pin Thin Quad Flat Pack (TQFP100))
pins: 1 TDI (in), 2 I/O0 0A12 (io), 3 I/O1 0B13 (io), 4 I/O2 0B12 (io), 5 I/O3 0B11 (io), 6 I/O4 0B8 (io), 7 I/O5 0B7 (io), 8 I/O6 0B4 (io), 9 I/O7 0B3 (io), 10 I/O8 0B2 (io), 11 I0/CLK0 (in), 12 VCC (power), 13 GND (power), 14 GND (power), 15 I1/CLK1 (in), 16 I/O9 1B2 (io), 17 I/O10 1B3 (io), 18 I/O11 1B4 (io), 19 I/O12 1B7 (io), 20 I/O13 1B8 (io), 21 I/O14 1B11 (io), 22 I/O15 1B12 (io), 23 I/O16 1B13 (io), 24 I/O17 1A12 (io), 25 TCK (in), 26 GND (power), 27 GND (power), 28 I/O18 1A7 (io), 29 I/O19 1A6 (io), 30 I/O20 1A5 (io), 31 I/O21 1A4 (io), 32 I/O22 1A3 (io), 33 I/O23 1A2 (io), 34 I/O24 1A1 (io), 35 I/O25 1A0 (io), 36 NC, 37 VCC (power), 38 GND (power), 39 GND (power), 40 VCC (power), 41 I/O26 2A0 (io), 42 I/O27 2A1 (io), 43 I/O28 2A2 (io), 44 I/O29 2A3 (io), 45 I/O30 2A4 (io), 46 I/O31 2A5 (io), 47 I/O32 2A6 (io), 48 I/O33 2A7 (io), 49 GND (power), 50 GND (power), 51 TMS (in), 52 I/O34 2A12 (io), 53 I/O35 2B13 (io), 54 I/O36 2B12 (io), 55 I/O37 2B11 (io), 56 I/O38 2B8 (io), 57 I/O39 2B7 (io), 58 I/O40 2B4 (io), 59 I/O41 2B3 (io), 60 I/O42 2B2 (io), 61 I2/CLK2 (in), 62 VCC (power), 63 GND (power), 64 I3/CLK3 (in), 65 I/O43 3B2 (io), 66 I/O44 3B3 (io), 67 I/O45 3B4 (io), 68 I/O46 3B7 (io), 69 I/O47 3B8 (io), 70 I/O48 3B11 (io), 71 I/O49 3B12 (io), 72 I/O50 3B13 (io), 73 I/O51 3A12 (io), 74 TDO (out), 75 GND (power), 76 GND (power), 77 I/O52 3A7 (io), 78 I/O53 3A6 (io), 79 I/O54 3A5 (io), 80 I/O55 3A4 (io), 81 I/O56 3A3 (io), 82 I/O57 3A2 (io), 83 I/O58 3A1 (io), 84 I/O59 3A0 (io), 85 NC, 86 VCC (power), 87 GND (power), 88 GND (power), 89 VCC (power), 90 I/O60 0A0 (io), 91 I/O61 0A1 (io), 92 I/O62 0A2 (io), 93 I/O63 0A3 (io), 94 I/O64 0A4 (io), 95 I/O65 0A5 (io), 96 I/O66 0A6 (io), 97 I/O67 0A7 (io), 98 NC, 99 GND (power), 100 GND (power)

## M5LV-256/68-15YI
designator U?
High-Density and High-I/O Complex PLD; Published: 23-Sep-2002; LatestRevisionDate: 13-Apr-2006; LatestRevisionNote: IPC-7351 Footprint Added.; DatasheetVersion: Sep-2000; PackageVersion: pkg_32, Aug-2005; PackageReference: PQFP100; Publisher: Altium Limited; PackageDescription: 100-Pin Quad Flat Pack Rectangular 0.65 mm Pitch; Code_IPC: QFP65P1720X2320-100; ComponentLink1Description: Manufacturer Link; ComponentLink1URL: http://www.latticesemi.com/products/mature/index.cfm; ComponentLink2Description: Datasheet; ComponentLink2URL: http://www.latticesemi.com/lit/docs/datasheets/cpld/mach5.pdf
footprint PQFP100_N (QFP, 100-Leads, Body 20x14mm, Pitch 0.65mm, IPC Medium Density)
footprint PQFP100_L (QFP, 100-Leads, Body 20x14mm, Pitch 0.65mm, IPC High Density)
footprint PQFP100_M (QFP, 100-Leads, Body 20x14mm, Pitch 0.65mm, IPC Low Density)
3D model PQFP-100 (100-Pin Quad Flat Pack Rectangular 0.65 mm Pitch)
pins: 1 GND (power), 2 GND (power), 3 TDI (in), 4 I/O0 0A12 (io), 5 I/O1 0B13 (io), 6 I/O2 0B12 (io), 7 I/O3 0B11 (io), 8 I/O4 0B8 (io), 9 I/O5 0B7 (io), 10 I/O6 0B4 (io), 11 I/O7 0B3 (io), 12 I/O8 0B2 (io), 13 I0/CLK0 (in), 14 VCC (power), 15 VCC (power), 16 GND (power), 17 GND (power), 18 I1/CLK1 (in), 19 I/O9 1B2 (io), 20 I/O10 1B3 (io), 21 I/O11 1B4 (io), 22 I/O12 1B7 (io), 23 I/O13 1B8 (io), 24 I/O14 1B11 (io), 25 I/O15 1B12 (io), 26 I/O16 1B13 (io), 27 I/O17 1A12 (io), 28 TCK (in), 29 GND (power), 30 GND (power), 31 I/O18 1A7 (io), 32 I/O19 1A6 (io), 33 I/O20 1A5 (io), 34 I/O21 1A4 (io), 35 I/O22 1A3 (io), 36 I/O23 1A2 (io), 37 I/O24 1A1 (io), 38 I/O25 1A0 (io), 39 VCC (power), 40 GND (power), 41 GND (power), 42 VCC (power), 43 I/O26 2A0 (io), 44 I/O27 2A1 (io), 45 I/O28 2A2 (io), 46 I/O29 2A3 (io), 47 I/O30 2A4 (io), 48 I/O31 2A5 (io), 49 I/O32 2A6 (io), 50 I/O33 2A7 (io), 51 GND (power), 52 GND (power), 53 TMS (in), 54 I/O34 2A12 (io), 55 I/O35 2B13 (io), 56 I/O36 2B12 (io), 57 I/O37 2B11 (io), 58 I/O38 2B8 (io), 59 I/O39 2B7 (io), 60 I/O40 2B4 (io), 61 I/O41 2B3 (io), 62 I/O42 2B2 (io), 63 I2/CLK2 (in), 64 VCC (power), 65 VCC (power), 66 GND (power), 67 GND (power), 68 I3/CLK3 (in), 69 I/O43 3B2 (io), 70 I/O44 3B3 (io), 71 I/O45 3B4 (io), 72 I/O46 3B7 (io), 73 I/O47 3B8 (io), 74 I/O48 3B11 (io), 75 I/O49 3B12 (io), 76 I/O50 3B13 (io), 77 I/O51 3A12 (io), 78 TDO (out), 79 GND (power), 80 GND (power), 81 I/O52 3A7 (io), 82 I/O53 3A6 (io), 83 I/O54 3A5 (io), 84 I/O55 3A4 (io), 85 I/O56 3A3 (io), 86 I/O57 3A2 (io), 87 I/O58 3A1 (io), 88 I/O59 3A0 (io), 89 VCC (power), 90 GND (power), 91 GND (power), 92 VCC (power), 93 I/O60 0A0 (io), 94 I/O61 0A1 (io), 95 I/O62 0A2 (io), 96 I/O63 0A3 (io), 97 I/O64 0A4 (io), 98 I/O65 0A5 (io), 99 I/O66 0A6 (io), 100 I/O67 0A7 (io)

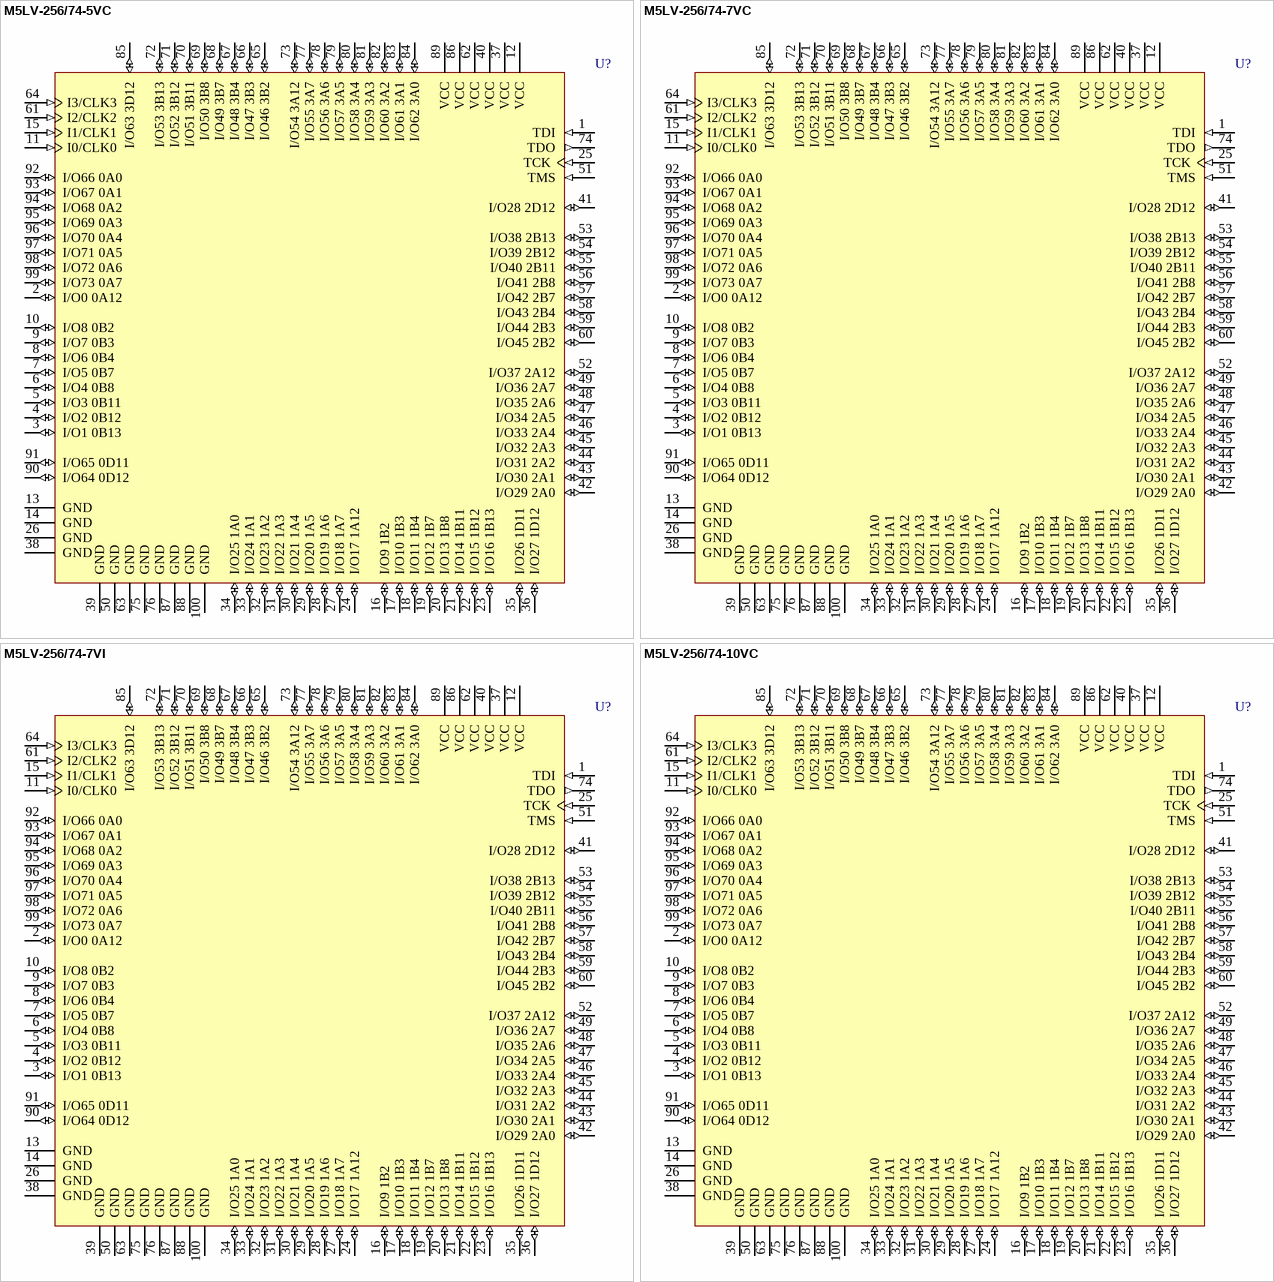
[diagram p177: symbols M5LV-256/74-5VC to M5LV-256/74-10VC]

## M5LV-256/74-5VC
designator U?
High-Density and High-I/O Complex PLD; Published: 23-Sep-2002; LatestRevisionDate: 13-Apr-2006; LatestRevisionNote: IPC-7351 Footprint Added.; DatasheetVersion: Sep-2000; PackageVersion: pkg_32, Aug-2005; PackageReference: TQFP100; Publisher: Altium Limited; PackageDescription: 100-Pin Thin Quad Flat Pack (TQFP100); Code_JEDEC: MS-026-BED; ComponentLink1Description: Manufacturer Link; ComponentLink1URL: http://www.latticesemi.com/products/mature/index.cfm; ComponentLink2Description: Datasheet; ComponentLink2URL: http://www.latticesemi.com/lit/docs/datasheets/cpld/mach5.pdf
footprint TQFP100_N (Thin QFP, 100-Leads, Body 14x14mm, Pitch 0.5mm, IPC Medium Density)
footprint TQFP100_L (Thin QFP, 100-Leads, Body 14x14mm, Pitch 0.5mm, IPC High Density)
footprint TQFP100_M (Thin QFP, 100-Leads, Body 14x14mm, Pitch 0.5mm, IPC Low Density)
3D model M5LV-TQFP100 (100-Pin Thin Quad Flat Pack (TQFP100))
pins: 1 TDI (in), 2 I/O0 0A12 (io), 3 I/O1 0B13 (io), 4 I/O2 0B12 (io), 5 I/O3 0B11 (io), 6 I/O4 0B8 (io), 7 I/O5 0B7 (io), 8 I/O6 0B4 (io), 9 I/O7 0B3 (io), 10 I/O8 0B2 (io), 11 I0/CLK0 (in), 12 VCC (power), 13 GND (power), 14 GND (power), 15 I1/CLK1 (in), 16 I/O9 1B2 (io), 17 I/O10 1B3 (io), 18 I/O11 1B4 (io), 19 I/O12 1B7 (io), 20 I/O13 1B8 (io), 21 I/O14 1B11 (io), 22 I/O15 1B12 (io), 23 I/O16 1B13 (io), 24 I/O17 1A12 (io), 25 TCK (in), 26 GND (power), 27 I/O18 1A7 (io), 28 I/O19 1A6 (io), 29 I/O20 1A5 (io), 30 I/O21 1A4 (io), 31 I/O22 1A3 (io), 32 I/O23 1A2 (io), 33 I/O24 1A1 (io), 34 I/O25 1A0 (io), 35 I/O26 1D11 (io), 36 I/O27 1D12 (io), 37 VCC (power), 38 GND (power), 39 GND (power), 40 VCC (power), 41 I/O28 2D12 (io), 42 I/O29 2A0 (io), 43 I/O30 2A1 (io), 44 I/O31 2A2 (io), 45 I/O32 2A3 (io), 46 I/O33 2A4 (io), 47 I/O34 2A5 (io), 48 I/O35 2A6 (io), 49 I/O36 2A7 (io), 50 GND (power), 51 TMS (in), 52 I/O37 2A12 (io), 53 I/O38 2B13 (io), 54 I/O39 2B12 (io), 55 I/O40 2B11 (io), 56 I/O41 2B8 (io), 57 I/O42 2B7 (io), 58 I/O43 2B4 (io), 59 I/O44 2B3 (io), 60 I/O45 2B2 (io), 61 I2/CLK2 (in), 62 VCC (power), 63 GND (power), 64 I3/CLK3 (in), 65 I/O46 3B2 (io), 66 I/O47 3B3 (io), 67 I/O48 3B4 (io), 68 I/O49 3B7 (io), 69 I/O50 3B8 (io), 70 I/O51 3B11 (io), 71 I/O52 3B12 (io), 72 I/O53 3B13 (io), 73 I/O54 3A12 (io), 74 TDO (out), 75 GND (power), 76 GND (power), 77 I/O55 3A7 (io), 78 I/O56 3A6 (io), 79 I/O57 3A5 (io), 80 I/O58 3A4 (io), 81 I/O59 3A3 (io), 82 I/O60 3A2 (io), 83 I/O61 3A1 (io), 84 I/O62 3A0 (io), 85 I/O63 3D12 (io), 86 VCC (power), 87 GND (power), 88 GND (power), 89 VCC (power), 90 I/O64 0D12 (io), 91 I/O65 0D11 (io), 92 I/O66 0A0 (io), 93 I/O67 0A1 (io), 94 I/O68 0A2 (io), 95 I/O69 0A3 (io), 96 I/O70 0A4 (io), 97 I/O71 0A5 (io), 98 I/O72 0A6 (io), 99 I/O73 0A7 (io), 100 GND (power)

## M5LV-256/74-7VC
designator U?
High-Density and High-I/O Complex PLD; Published: 23-Sep-2002; LatestRevisionDate: 13-Apr-2006; LatestRevisionNote: IPC-7351 Footprint Added.; DatasheetVersion: Sep-2000; PackageVersion: pkg_32, Aug-2005; PackageReference: TQFP100; Publisher: Altium Limited; PackageDescription: 100-Pin Thin Quad Flat Pack (TQFP100); Code_JEDEC: MS-026-BED; ComponentLink1Description: Manufacturer Link; ComponentLink1URL: http://www.latticesemi.com/products/mature/index.cfm; ComponentLink2Description: Datasheet; ComponentLink2URL: http://www.latticesemi.com/lit/docs/datasheets/cpld/mach5.pdf
footprint TQFP100_N (Thin QFP, 100-Leads, Body 14x14mm, Pitch 0.5mm, IPC Medium Density)
footprint TQFP100_L (Thin QFP, 100-Leads, Body 14x14mm, Pitch 0.5mm, IPC High Density)
footprint TQFP100_M (Thin QFP, 100-Leads, Body 14x14mm, Pitch 0.5mm, IPC Low Density)
3D model M5LV-TQFP100 (100-Pin Thin Quad Flat Pack (TQFP100))
pins: 1 TDI (in), 2 I/O0 0A12 (io), 3 I/O1 0B13 (io), 4 I/O2 0B12 (io), 5 I/O3 0B11 (io), 6 I/O4 0B8 (io), 7 I/O5 0B7 (io), 8 I/O6 0B4 (io), 9 I/O7 0B3 (io), 10 I/O8 0B2 (io), 11 I0/CLK0 (in), 12 VCC (power), 13 GND (power), 14 GND (power), 15 I1/CLK1 (in), 16 I/O9 1B2 (io), 17 I/O10 1B3 (io), 18 I/O11 1B4 (io), 19 I/O12 1B7 (io), 20 I/O13 1B8 (io), 21 I/O14 1B11 (io), 22 I/O15 1B12 (io), 23 I/O16 1B13 (io), 24 I/O17 1A12 (io), 25 TCK (in), 26 GND (power), 27 I/O18 1A7 (io), 28 I/O19 1A6 (io), 29 I/O20 1A5 (io), 30 I/O21 1A4 (io), 31 I/O22 1A3 (io), 32 I/O23 1A2 (io), 33 I/O24 1A1 (io), 34 I/O25 1A0 (io), 35 I/O26 1D11 (io), 36 I/O27 1D12 (io), 37 VCC (power), 38 GND (power), 39 GND (power), 40 VCC (power), 41 I/O28 2D12 (io), 42 I/O29 2A0 (io), 43 I/O30 2A1 (io), 44 I/O31 2A2 (io), 45 I/O32 2A3 (io), 46 I/O33 2A4 (io), 47 I/O34 2A5 (io), 48 I/O35 2A6 (io), 49 I/O36 2A7 (io), 50 GND (power), 51 TMS (in), 52 I/O37 2A12 (io), 53 I/O38 2B13 (io), 54 I/O39 2B12 (io), 55 I/O40 2B11 (io), 56 I/O41 2B8 (io), 57 I/O42 2B7 (io), 58 I/O43 2B4 (io), 59 I/O44 2B3 (io), 60 I/O45 2B2 (io), 61 I2/CLK2 (in), 62 VCC (power), 63 GND (power), 64 I3/CLK3 (in), 65 I/O46 3B2 (io), 66 I/O47 3B3 (io), 67 I/O48 3B4 (io), 68 I/O49 3B7 (io), 69 I/O50 3B8 (io), 70 I/O51 3B11 (io), 71 I/O52 3B12 (io), 72 I/O53 3B13 (io), 73 I/O54 3A12 (io), 74 TDO (out), 75 GND (power), 76 GND (power), 77 I/O55 3A7 (io), 78 I/O56 3A6 (io), 79 I/O57 3A5 (io), 80 I/O58 3A4 (io), 81 I/O59 3A3 (io), 82 I/O60 3A2 (io), 83 I/O61 3A1 (io), 84 I/O62 3A0 (io), 85 I/O63 3D12 (io), 86 VCC (power), 87 GND (power), 88 GND (power), 89 VCC (power), 90 I/O64 0D12 (io), 91 I/O65 0D11 (io), 92 I/O66 0A0 (io), 93 I/O67 0A1 (io), 94 I/O68 0A2 (io), 95 I/O69 0A3 (io), 96 I/O70 0A4 (io), 97 I/O71 0A5 (io), 98 I/O72 0A6 (io), 99 I/O73 0A7 (io), 100 GND (power)

## M5LV-256/74-7VI
designator U?
High-Density and High-I/O Complex PLD; Published: 23-Sep-2002; LatestRevisionDate: 13-Apr-2006; LatestRevisionNote: IPC-7351 Footprint Added.; DatasheetVersion: Sep-2000; PackageVersion: pkg_32, Aug-2005; PackageReference: TQFP100; Publisher: Altium Limited; PackageDescription: 100-Pin Thin Quad Flat Pack (TQFP100); Code_JEDEC: MS-026-BED; ComponentLink1Description: Manufacturer Link; ComponentLink1URL: http://www.latticesemi.com/products/mature/index.cfm; ComponentLink2Description: Datasheet; ComponentLink2URL: http://www.latticesemi.com/lit/docs/datasheets/cpld/mach5.pdf
footprint TQFP100_N (Thin QFP, 100-Leads, Body 14x14mm, Pitch 0.5mm, IPC Medium Density)
footprint TQFP100_L (Thin QFP, 100-Leads, Body 14x14mm, Pitch 0.5mm, IPC High Density)
footprint TQFP100_M (Thin QFP, 100-Leads, Body 14x14mm, Pitch 0.5mm, IPC Low Density)
3D model M5LV-TQFP100 (100-Pin Thin Quad Flat Pack (TQFP100))
pins: 1 TDI (in), 2 I/O0 0A12 (io), 3 I/O1 0B13 (io), 4 I/O2 0B12 (io), 5 I/O3 0B11 (io), 6 I/O4 0B8 (io), 7 I/O5 0B7 (io), 8 I/O6 0B4 (io), 9 I/O7 0B3 (io), 10 I/O8 0B2 (io), 11 I0/CLK0 (in), 12 VCC (power), 13 GND (power), 14 GND (power), 15 I1/CLK1 (in), 16 I/O9 1B2 (io), 17 I/O10 1B3 (io), 18 I/O11 1B4 (io), 19 I/O12 1B7 (io), 20 I/O13 1B8 (io), 21 I/O14 1B11 (io), 22 I/O15 1B12 (io), 23 I/O16 1B13 (io), 24 I/O17 1A12 (io), 25 TCK (in), 26 GND (power), 27 I/O18 1A7 (io), 28 I/O19 1A6 (io), 29 I/O20 1A5 (io), 30 I/O21 1A4 (io), 31 I/O22 1A3 (io), 32 I/O23 1A2 (io), 33 I/O24 1A1 (io), 34 I/O25 1A0 (io), 35 I/O26 1D11 (io), 36 I/O27 1D12 (io), 37 VCC (power), 38 GND (power), 39 GND (power), 40 VCC (power), 41 I/O28 2D12 (io), 42 I/O29 2A0 (io), 43 I/O30 2A1 (io), 44 I/O31 2A2 (io), 45 I/O32 2A3 (io), 46 I/O33 2A4 (io), 47 I/O34 2A5 (io), 48 I/O35 2A6 (io), 49 I/O36 2A7 (io), 50 GND (power), 51 TMS (in), 52 I/O37 2A12 (io), 53 I/O38 2B13 (io), 54 I/O39 2B12 (io), 55 I/O40 2B11 (io), 56 I/O41 2B8 (io), 57 I/O42 2B7 (io), 58 I/O43 2B4 (io), 59 I/O44 2B3 (io), 60 I/O45 2B2 (io), 61 I2/CLK2 (in), 62 VCC (power), 63 GND (power), 64 I3/CLK3 (in), 65 I/O46 3B2 (io), 66 I/O47 3B3 (io), 67 I/O48 3B4 (io), 68 I/O49 3B7 (io), 69 I/O50 3B8 (io), 70 I/O51 3B11 (io), 71 I/O52 3B12 (io), 72 I/O53 3B13 (io), 73 I/O54 3A12 (io), 74 TDO (out), 75 GND (power), 76 GND (power), 77 I/O55 3A7 (io), 78 I/O56 3A6 (io), 79 I/O57 3A5 (io), 80 I/O58 3A4 (io), 81 I/O59 3A3 (io), 82 I/O60 3A2 (io), 83 I/O61 3A1 (io), 84 I/O62 3A0 (io), 85 I/O63 3D12 (io), 86 VCC (power), 87 GND (power), 88 GND (power), 89 VCC (power), 90 I/O64 0D12 (io), 91 I/O65 0D11 (io), 92 I/O66 0A0 (io), 93 I/O67 0A1 (io), 94 I/O68 0A2 (io), 95 I/O69 0A3 (io), 96 I/O70 0A4 (io), 97 I/O71 0A5 (io), 98 I/O72 0A6 (io), 99 I/O73 0A7 (io), 100 GND (power)

## M5LV-256/74-10VC
designator U?
High-Density and High-I/O Complex PLD; Published: 23-Sep-2002; LatestRevisionDate: 13-Apr-2006; LatestRevisionNote: IPC-7351 Footprint Added.; DatasheetVersion: Sep-2000; PackageVersion: pkg_32, Aug-2005; PackageReference: TQFP100; Publisher: Altium Limited; PackageDescription: 100-Pin Thin Quad Flat Pack (TQFP100); Code_JEDEC: MS-026-BED; ComponentLink1Description: Manufacturer Link; ComponentLink1URL: http://www.latticesemi.com/products/mature/index.cfm; ComponentLink2Description: Datasheet; ComponentLink2URL: http://www.latticesemi.com/lit/docs/datasheets/cpld/mach5.pdf
footprint TQFP100_N (Thin QFP, 100-Leads, Body 14x14mm, Pitch 0.5mm, IPC Medium Density)
footprint TQFP100_L (Thin QFP, 100-Leads, Body 14x14mm, Pitch 0.5mm, IPC High Density)
footprint TQFP100_M (Thin QFP, 100-Leads, Body 14x14mm, Pitch 0.5mm, IPC Low Density)
3D model M5LV-TQFP100 (100-Pin Thin Quad Flat Pack (TQFP100))
pins: 1 TDI (in), 2 I/O0 0A12 (io), 3 I/O1 0B13 (io), 4 I/O2 0B12 (io), 5 I/O3 0B11 (io), 6 I/O4 0B8 (io), 7 I/O5 0B7 (io), 8 I/O6 0B4 (io), 9 I/O7 0B3 (io), 10 I/O8 0B2 (io), 11 I0/CLK0 (in), 12 VCC (power), 13 GND (power), 14 GND (power), 15 I1/CLK1 (in), 16 I/O9 1B2 (io), 17 I/O10 1B3 (io), 18 I/O11 1B4 (io), 19 I/O12 1B7 (io), 20 I/O13 1B8 (io), 21 I/O14 1B11 (io), 22 I/O15 1B12 (io), 23 I/O16 1B13 (io), 24 I/O17 1A12 (io), 25 TCK (in), 26 GND (power), 27 I/O18 1A7 (io), 28 I/O19 1A6 (io), 29 I/O20 1A5 (io), 30 I/O21 1A4 (io), 31 I/O22 1A3 (io), 32 I/O23 1A2 (io), 33 I/O24 1A1 (io), 34 I/O25 1A0 (io), 35 I/O26 1D11 (io), 36 I/O27 1D12 (io), 37 VCC (power), 38 GND (power), 39 GND (power), 40 VCC (power), 41 I/O28 2D12 (io), 42 I/O29 2A0 (io), 43 I/O30 2A1 (io), 44 I/O31 2A2 (io), 45 I/O32 2A3 (io), 46 I/O33 2A4 (io), 47 I/O34 2A5 (io), 48 I/O35 2A6 (io), 49 I/O36 2A7 (io), 50 GND (power), 51 TMS (in), 52 I/O37 2A12 (io), 53 I/O38 2B13 (io), 54 I/O39 2B12 (io), 55 I/O40 2B11 (io), 56 I/O41 2B8 (io), 57 I/O42 2B7 (io), 58 I/O43 2B4 (io), 59 I/O44 2B3 (io), 60 I/O45 2B2 (io), 61 I2/CLK2 (in), 62 VCC (power), 63 GND (power), 64 I3/CLK3 (in), 65 I/O46 3B2 (io), 66 I/O47 3B3 (io), 67 I/O48 3B4 (io), 68 I/O49 3B7 (io), 69 I/O50 3B8 (io), 70 I/O51 3B11 (io), 71 I/O52 3B12 (io), 72 I/O53 3B13 (io), 73 I/O54 3A12 (io), 74 TDO (out), 75 GND (power), 76 GND (power), 77 I/O55 3A7 (io), 78 I/O56 3A6 (io), 79 I/O57 3A5 (io), 80 I/O58 3A4 (io), 81 I/O59 3A3 (io), 82 I/O60 3A2 (io), 83 I/O61 3A1 (io), 84 I/O62 3A0 (io), 85 I/O63 3D12 (io), 86 VCC (power), 87 GND (power), 88 GND (power), 89 VCC (power), 90 I/O64 0D12 (io), 91 I/O65 0D11 (io), 92 I/O66 0A0 (io), 93 I/O67 0A1 (io), 94 I/O68 0A2 (io), 95 I/O69 0A3 (io), 96 I/O70 0A4 (io), 97 I/O71 0A5 (io), 98 I/O72 0A6 (io), 99 I/O73 0A7 (io), 100 GND (power)

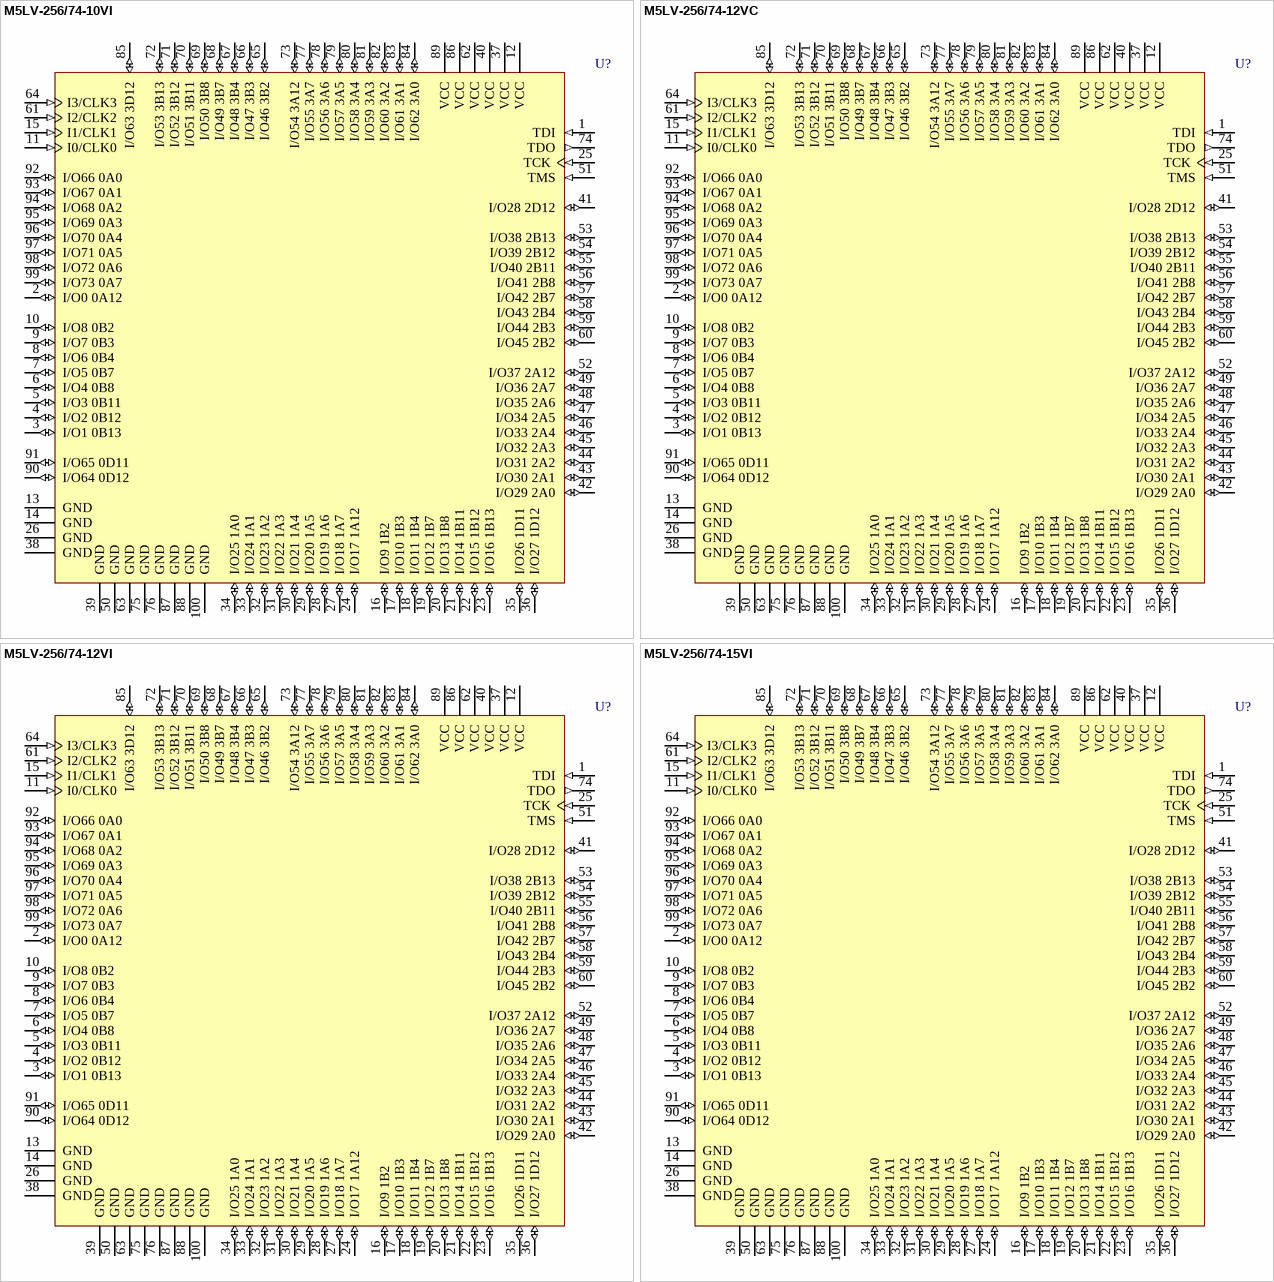
[diagram p178: symbols M5LV-256/74-10VI to M5LV-256/74-15VI]